# Altium schematic symbol library wr_switch.SCHLIB: 235 symbols (part 3 of 4)
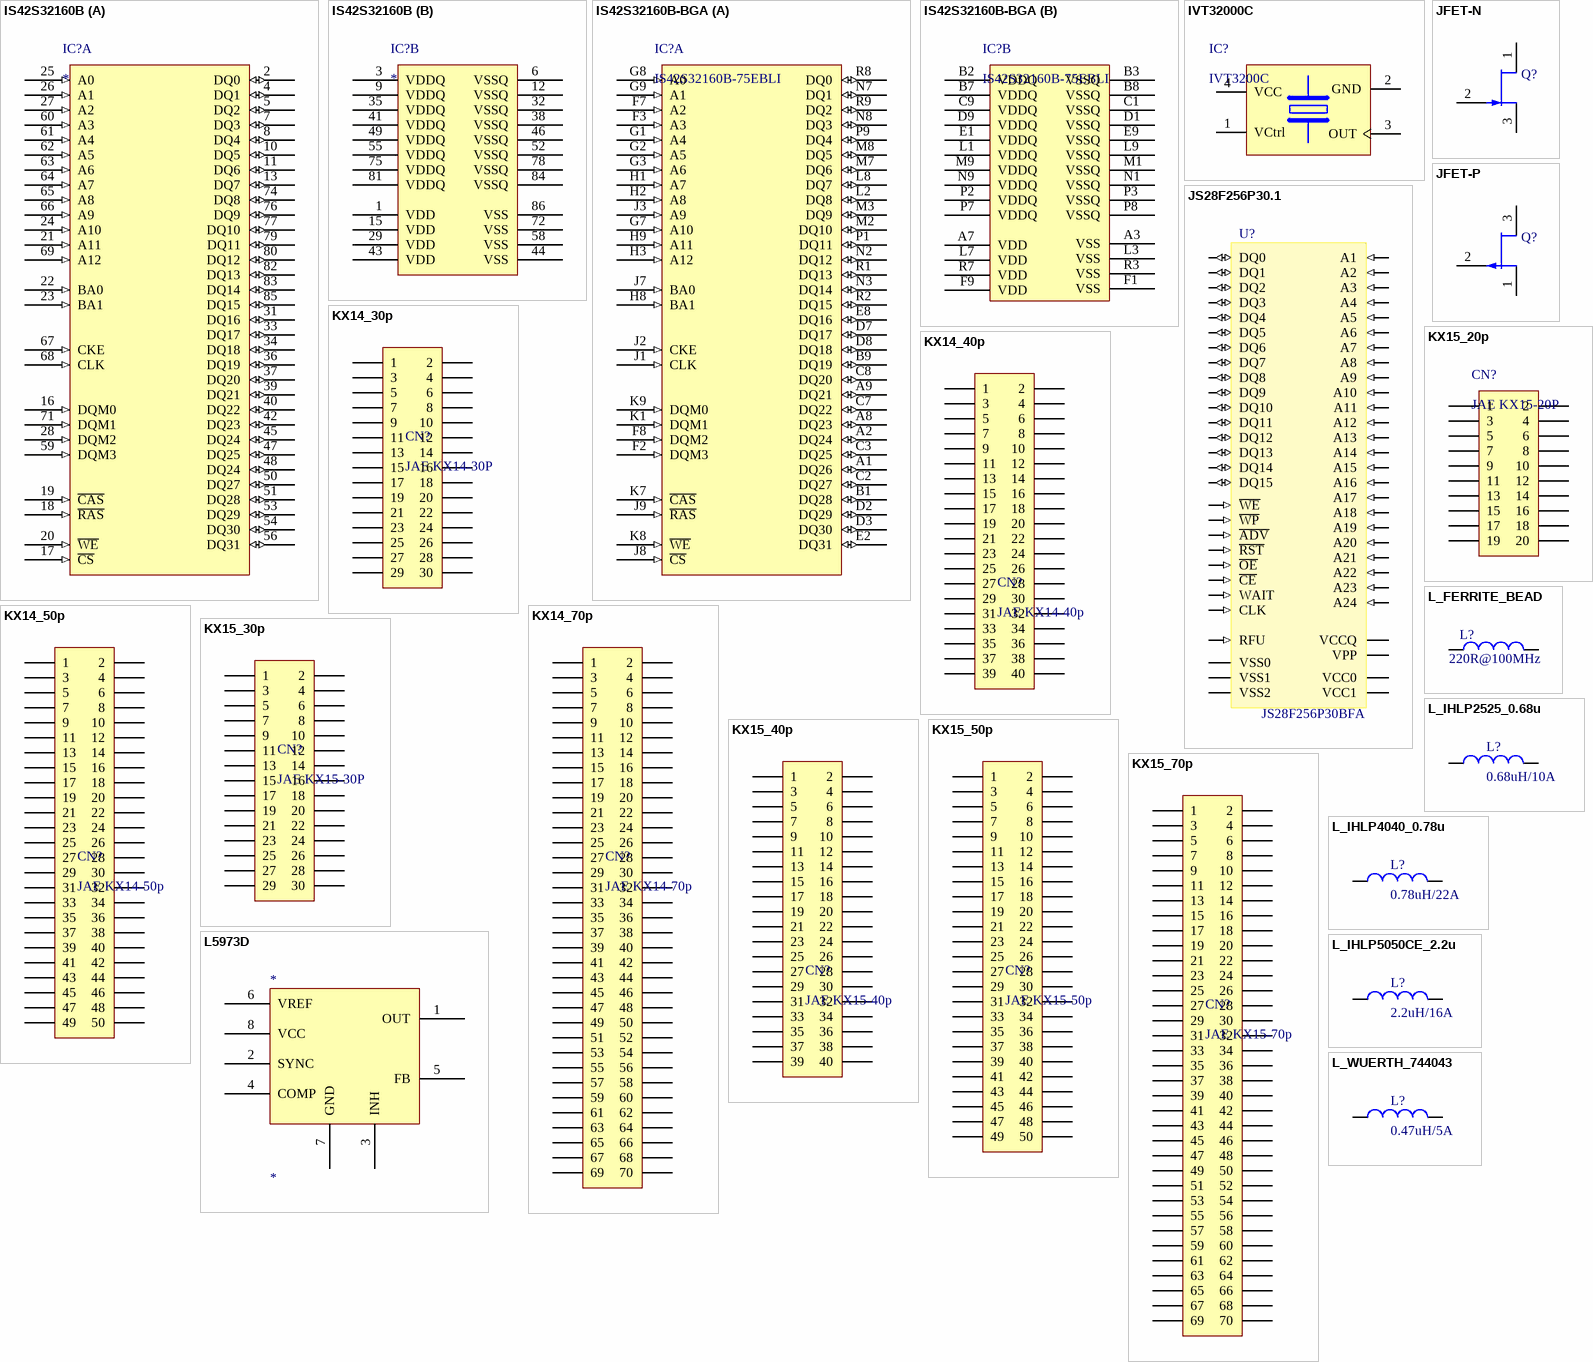
[diagram p28: symbols IS42S32160B to L_WUERTH_744043]

## IS42S32160B-BGA
designator IC?, comment IS42S32160B-75EBLI
SDRAM 512MBit (16Mx32) 133MHz BGA-90
footprint BGA90C80P9X15_1300X1100X120 (BGA 0.8mm, Pitch, Square 90 Pin, 9 Columns x 15 Rows, Body 13mm X 11mm X 1.2mm H)
part A pins: A1 DQ26 (io), A2 DQ24 (io), A8 DQ23 (io), A9 DQ21 (io), B1 DQ28 (io), B9 DQ19 (io), C2 DQ27 (io), C3 DQ25 (io), C7 DQ22 (io), C8 DQ20 (io), D2 DQ29 (io), D3 DQ30 (io), D7 DQ17 (io), D8 DQ18 (io), E2 DQ31 (io), E8 DQ16 (io), F2 DQM3 (in), F3 A3 (in), F7 A2 (in), F8 DQM2 (in), G1 A4 (in), G2 A5 (in), G3 A6 (in), G7 A10 (in), G8 A0 (in), G9 A1 (in), H1 A7 (in), H2 A8 (in), H3 A12 (in), H8 BA1 (in), H9 A11 (in), J1 CLK (in), J2 CKE (in), J3 A9 (in), J7 BA0 (in), J8 ~{CS} (in), J9 ~{RAS} (in), K1 DQM1 (in), K7 ~{CAS} (in), K8 ~{WE} (in), K9 DQM0 (in), L2 DQ8 (io), L8 DQ7 (io), M2 DQ10 (io), M3 DQ9 (io), M7 DQ6 (io), M8 DQ5 (io), N2 DQ12 (io), N3 DQ14 (io), N7 DQ1 (io), N8 DQ3 (io), P1 DQ11 (io), P9 DQ4 (io), R1 DQ13 (io), R2 DQ15 (io), R8 DQ0 (io), R9 DQ2 (io)
part B pins: A3 VSS (power), A7 VDD (power), B2 VDDQ (power), B3 VSSQ (power), B7 VDDQ (power), B8 VSSQ (power), C1 VSSQ (power), C9 VDDQ (power), D1 VSSQ (power), D9 VDDQ (power), E1 VDDQ (power), E9 VSSQ (power), F1 VSS (power), F9 VDD (power), L1 VDDQ (power), L3 VSS (power), L7 VDD (power), L9 VSSQ (power), M1 VSSQ (power), M9 VDDQ (power), N1 VSSQ (power), N9 VDDQ (power), P2 VDDQ (power), P3 VSSQ (power), P7 VDDQ (power), P8 VSSQ (power), R3 VSS (power), R7 VDD (power)

## IVT32000C
designator IC?, comment IVT3200C
footprint OSC_RAKON_IVT3200C (Oscillator IVT3200C Serie, Corner Concave; 4 pin, 2.50mm L X 3.2mm W X 1.1mm H)
pins: 1 VCtrl, 2 GND (power), 3 OUT, 4 VCC (power)

## JFET-N
designator Q?
N-Channel JFET; Published: 8-Jun-2000; LatestRevisionDate: 17-Jul-2002; LatestRevisionNote: Re-released for DXP Platform.; PackageReference: TO-254-AA; Publisher: Altium Limited; Code_JEDEC: TO-254-AA
footprint TO-254-AA (TO, Thru-Hole, Vertical, Heatsink Mounted; 3 In-Line Leads; Pitch 3.81 mm)
simulation model NJFET
pins: 1 D, 2 G, 3 S

## JFET-P
designator Q?
P-Channel JFET; Published: 8-Jun-2000; LatestRevisionDate: 17-Jul-2002; LatestRevisionNote: Re-released for DXP Platform.; PackageReference: TO-18A; Publisher: Altium Limited
footprint TO-18A (SC-89; 3 Flat Leads; Body 1.6 x 1.6 x 0.7 mm, inc leads (LxWxH typ))
simulation model PJFET
pins: 1 D, 2 G, 3 S

## JS28F256P30.1
designator U?, comment JS28F256P30BFA
NOR Flash Memory, 256Mbit; PKG_TYPE: TSOP50P20X14-56; LEVEL: STD; DEVICE: JS28F256P30; Distributor1 PN: JS28F256P30BFA-ND; Distributor1: Digikey; VALUE: JS28F256P30BFA
footprint TSSOP50P2000-56L (TSSOP, 56-Leads, Body 14x18.4mm, Pitch 0.5mm, IPC High Density)
pins: 1 A16 (in), 2 A15 (in), 3 A14 (in), 4 A13 (in), 5 A12 (in), 6 A11 (in), 7 A10 (in), 8 A9 (in), 9 A23 (in), 10 A22 (in), 11 A21 (in), 12 VSS0, 13 VCC0, 14 ~{WE} (in), 15 ~{WP} (in), 16 A20 (in), 17 A19 (in), 18 A18 (in), 19 A8 (in), 20 A7 (in), 21 A6 (in), 22 A5 (in), 23 A4 (in), 24 A3 (in), 25 A2 (in), 26 A24 (in), 27 RFU (in), 28 VSS1, 29 A1 (in), 30 ~{CE} (in), 31 VSS2, 32 ~{OE} (in), 33 VCC1, 34 DQ0 (io), 35 DQ8 (io), 36 DQ1 (io), 37 DQ9 (io), 38 VCCQ, 39 DQ2 (io), 40 DQ10 (io), 41 DQ3 (io), 42 DQ11 (io), 43 VPP, 44 ~{RST} (in), 45 CLK (in), 46 ~{ADV} (in), 47 DQ4 (io), 48 DQ12 (io), 49 DQ5 (io), 50 DQ13 (io), 51 DQ6 (io), 52 DQ14 (io), 53 DQ7 (io), 54 DQ15 (io), 55 A17 (in), 56 WAIT (in)

## KX14_30p
designator CN?, comment JAE KX14-30P
multipin B2B connector (plug); Supplier: Mouser
footprint JAE_KX15_30P
pins: 1, 2, 3, 4, 5, 6, 7, 8, 9, 10, 11, 12, 13, 14, 15, 16, 17, 18, 19, 20, 21, 22, 23, 24, 25, 26, 27, 28, 29, 30

## KX14_40p
designator CN?, comment JAE KX14-40p
multipin B2B connector (receptacle); RefId: 1519650; Value: KX14-40K5DRE; Supplier: Farnell
footprint JAE_KX14_40p
pins: 1, 2, 3, 4, 5, 6, 7, 8, 9, 10, 11, 12, 13, 14, 15, 16, 17, 18, 19, 20, 21, 22, 23, 24, 25, 26, 27, 28, 29, 30, 31, 32, 33, 34, 35, 36, 37, 38, 39, 40

## KX14_50p
designator CN?, comment JAE KX14-50p
multipin B2B connector (plug); Supplier: Farnell
footprint JAE_KX14_50P
pins: 1, 2, 3, 4, 5, 6, 7, 8, 9, 10, 11, 12, 13, 14, 15, 16, 17, 18, 19, 20, 21, 22, 23, 24, 25, 26, 27, 28, 29, 30, 31, 32, 33, 34, 35, 36, 37, 38, 39, 40, 41, 42, 43, 44, 45, 46, 47, 48, 49, 50

## KX14_70p
designator CN?, comment JAE KX14-70p
multipin B2B connector (receptacle); RefId: 670-1272-ND; Value: KX14-70K14DE; Supplier: Digikey
footprint JAE_KX14_70p
pins: 1, 2, 3, 4, 5, 6, 7, 8, 9, 10, 11, 12, 13, 14, 15, 16, 17, 18, 19, 20, 21, 22, 23, 24, 25, 26, 27, 28, 29, 30, 31, 32, 33, 34, 35, 36, 37, 38, 39, 40, 41, 42, 43, 44, 45, 46, 47, 48, 49, 50, 51, 52, 53, 54, 55, 56, 57, 58, 59, 60, 61, 62, 63, 64, 65, 66, 67, 68, 69, 70

## KX15_20p
designator CN?, comment JAE KX15-20P
multipin B2B connector (plug); Supplier: Mouser
footprint JAE_KX15_20P
pins: 1, 2, 3, 4, 5, 6, 7, 8, 9, 10, 11, 12, 13, 14, 15, 16, 17, 18, 19, 20

## KX15_30p
designator CN?, comment JAE KX15-30P
multipin B2B connector (plug); Supplier: Mouser
footprint JAE_KX14_30P
pins: 1, 2, 3, 4, 5, 6, 7, 8, 9, 10, 11, 12, 13, 14, 15, 16, 17, 18, 19, 20, 21, 22, 23, 24, 25, 26, 27, 28, 29, 30

## KX15_40p
designator CN?, comment JAE KX15-40p
multipin B2B connector (plug); RefId: 1519662; Value: KX15-40K3DE; Supplier: Farnell
footprint JAE_KX15_40P
pins: 1, 2, 3, 4, 5, 6, 7, 8, 9, 10, 11, 12, 13, 14, 15, 16, 17, 18, 19, 20, 21, 22, 23, 24, 25, 26, 27, 28, 29, 30, 31, 32, 33, 34, 35, 36, 37, 38, 39, 40

## KX15_50p
designator CN?, comment JAE KX15-50p
multipin B2B connector (plug); Supplier: Farnell
footprint JAE_KX15_50P
pins: 1, 2, 3, 4, 5, 6, 7, 8, 9, 10, 11, 12, 13, 14, 15, 16, 17, 18, 19, 20, 21, 22, 23, 24, 25, 26, 27, 28, 29, 30, 31, 32, 33, 34, 35, 36, 37, 38, 39, 40, 41, 42, 43, 44, 45, 46, 47, 48, 49, 50

## KX15_70p
designator CN?, comment JAE KX15-70p
multipin B2B connector (plug); RefId: 670-1338-ND; Value: KX15-70K4DE; Supplier: Digikey
footprint JAE_KX15_70p
pins: 1, 2, 3, 4, 5, 6, 7, 8, 9, 10, 11, 12, 13, 14, 15, 16, 17, 18, 19, 20, 21, 22, 23, 24, 25, 26, 27, 28, 29, 30, 31, 32, 33, 34, 35, 36, 37, 38, 39, 40, 41, 42, 43, 44, 45, 46, 47, 48, 49, 50, 51, 52, 53, 54, 55, 56, 57, 58, 59, 60, 61, 62, 63, 64, 65, 66, 67, 68, 69, 70

## L5973D
designator *
pins: 1 OUT, 2 SYNC, 3 INH, 4 COMP, 5 FB, 6 VREF, 7 GND, 8 VCC

## L_FERRITE_BEAD
designator L?, comment Impedance: 220R@100MHz  (hidden comment: 220R@100MHz Ferrite Bead)
ferrite bead; Manufacturer1: Murata; Manufacturer1 PN: BLM18KG221SN1D; Current Rating: 2.2A; DCR: 50mOhm; Case: 0603; Distributor1: Digikey; Distributor1 PN: 490-5255-1-ND
footprint 0805
footprint 1206
footprint 0603
pins: 1, 2
2 alternate drawings of the same symbol

## L_IHLP2525_0.68u
designator L?, comment 0.68uH/10A
Vishay 16A 2.2u inductor; Value: ihlp5050ce01-2r2; RefId: 4829049; Supplier: Farnell
footprint IHLP5050
footprint IHLP2525
pins: 1, 2

## L_IHLP4040_0.78u
designator L?, comment 0.78uH/22A
Vishay 27A 0.78u inductor; Manufacturer1 PN: IHLP4040DZERR78M11; Distributor1: Digikey; Distributor1 PN: IHLP4040DZERR78M11-ND; Manufacturer1: Vishay
footprint IHLP4040 (Chip Inductor; Body 10.92mm x 10.3 mm (LxW typ))
pins: 1, 2

## L_IHLP5050CE_2.2u
designator L?, comment 2.2uH/16A
Vishay 16A 2.2u inductor; Value: ihlp5050ce01-2r2; RefId: 1470177; Supplier: Farnell
footprint IHLP5050
pins: 1, 2

## L_WUERTH_744043
designator L?, comment 0.47uH/5A
Wuerth small footprint SMD power inductor; Value: 74404300047; Supplier: Mouser; RefId: 74404300047
footprint IHLP5050
footprint IND_WURTH_744042_MH
pins: 1, 2

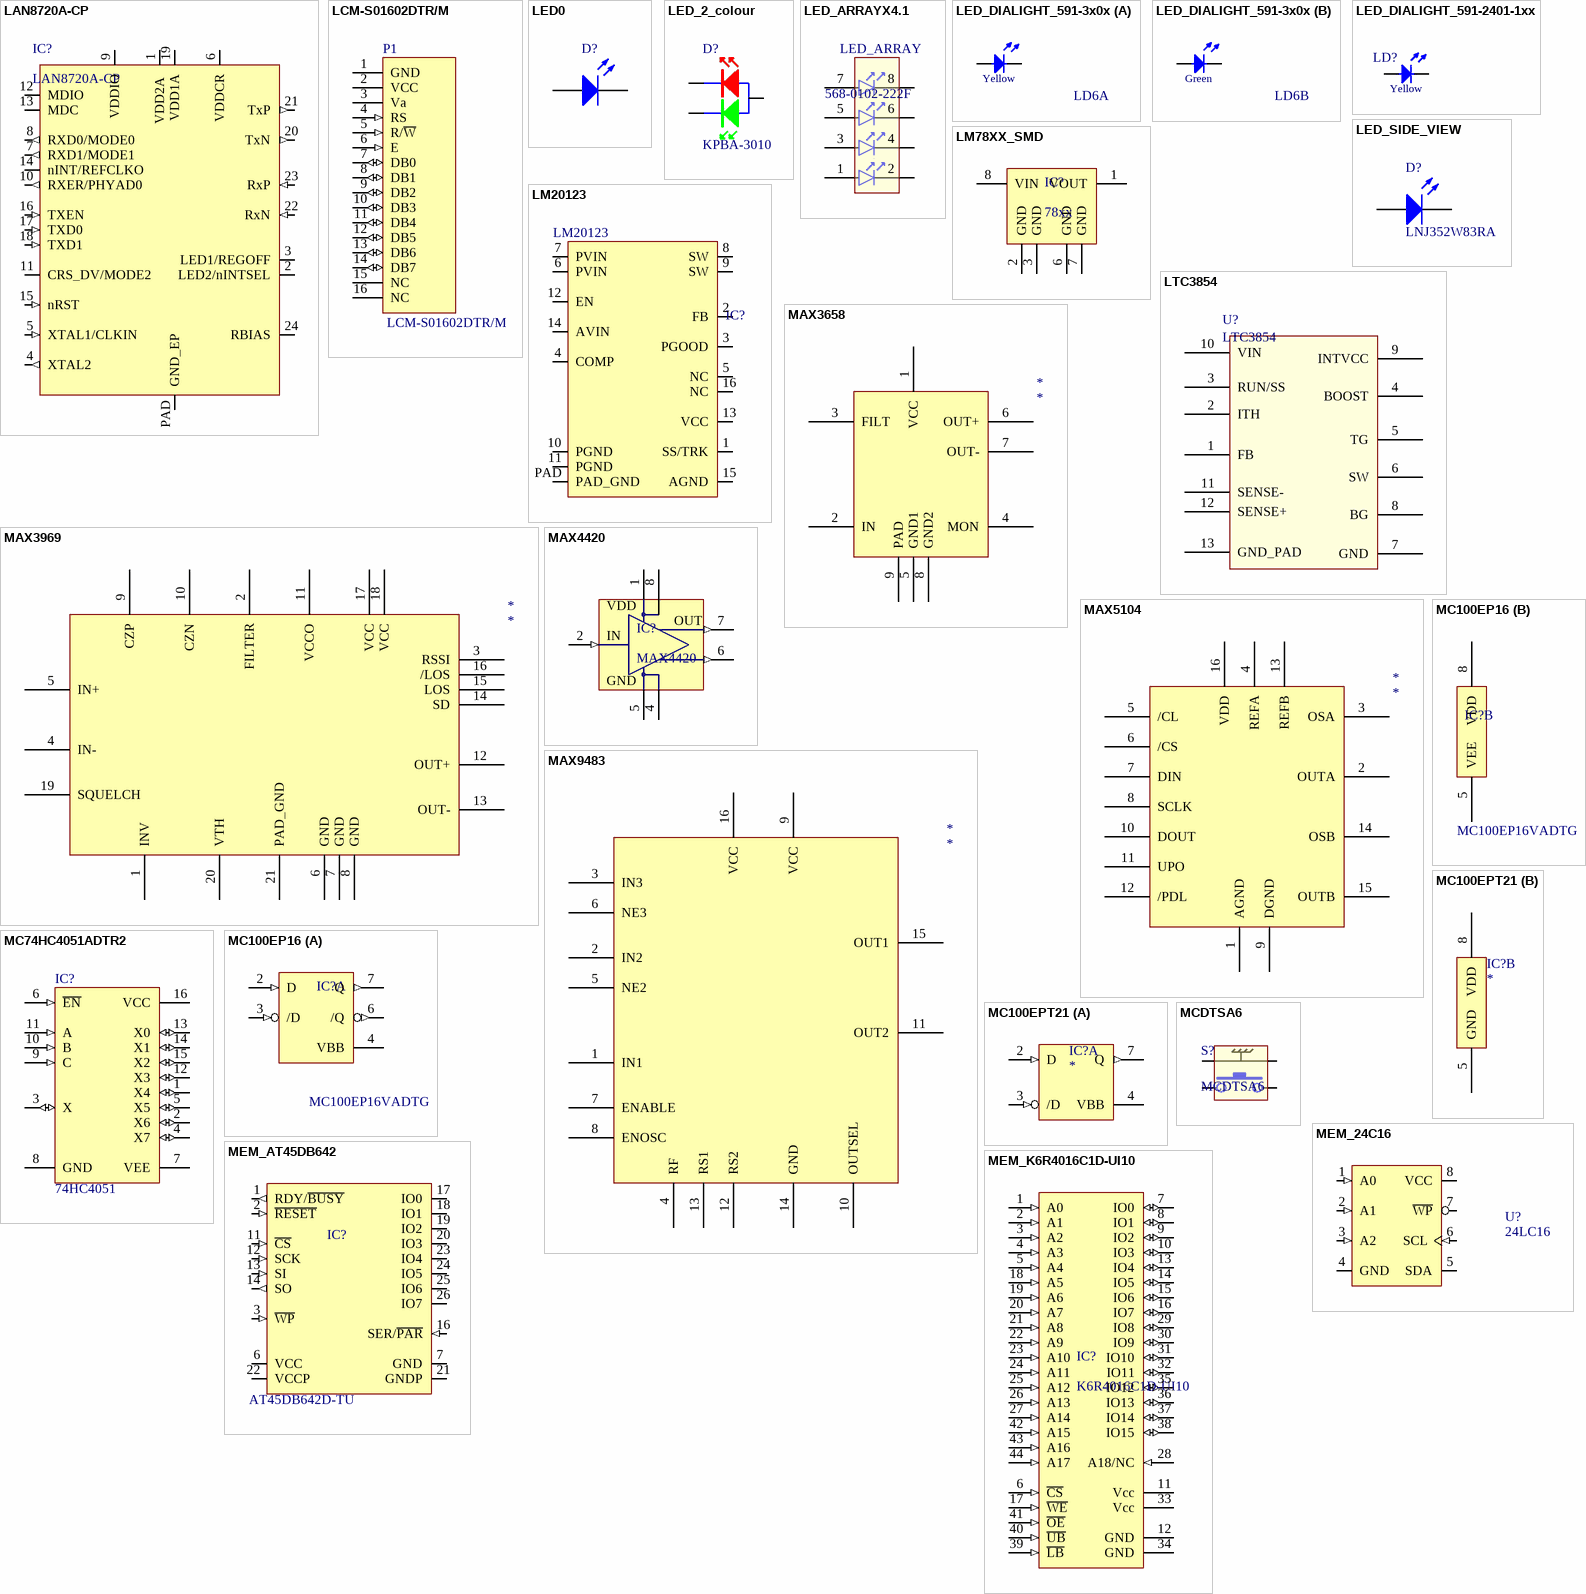
[diagram p18: symbols LAN8720A-CP to MEM_K6R4016C1D-UI10]

## LAN8720A-CP
designator IC?
RMII ethernet transceiver with auto MIDIX; Manufacturer: SMSC; Value: LAN8720A-CP; Distributor1: Digikey; Distributor1 PN: 638-1080-ND
footprint QFN50P400X400-24W4M (QFN, 24-Leads, Body 4x4mm, Pitch 0.5mm, IPC Low Density)
pins: 1 VDD2A  (power), 2 LED2/nINTSEL (io), 3 LED1/REGOFF (io), 4 XTAL2 (out), 5 XTAL1/CLKIN (in), 6 VDDCR (power), 7 RXD1/MODE1 (out), 8 RXD0/MODE0 (out), 9 VDDIO (power), 10 RXER/PHYAD0 (out), 11 CRS_DV/MODE2 (io), 12 MDIO (io), 13 MDC (io), 14 nINT/REFCLKO (io), 15 nRST (in), 16 TXEN (in), 17 TXD0 (in), 18 TXD1 (in), 19 VDD1A (power), 20 TxN (out), 21 TxP (out), 22 RxN (in), 23 RxP (in), 24 RBIAS, PAD GND_EP (power)

## LCM-S01602DTR/M
designator P1
16x2 Character LCD Module; Manufacturer1: Lumex; Distirbutor1 PN: 67-1781-ND; Manufacturer1 PN: LCM-S01602DTR/M; Distributor1: Digikey
footprint LCM-S010602DTR (16x2 LCD, 2.54 Pitch)
pins: 1 GND (power), 2 VCC (power), 3 Va (power), 4 RS (in), 5 R/~{W} (in), 6 E (in), 7 DB0 (io), 8 DB1 (io), 9 DB2 (io), 10 DB3 (io), 11 DB4 (io), 12 DB5 (io), 13 DB6 (io), 14 DB7 (io), 15 NC, 16 NC

## LED0
designator D?
Typical INFRARED GaAs LED; Published: 8-Jun-2000; LatestRevisionDate: 08-Jul-2005; LatestRevisionNote: Mech Layer 1 removed.; PackageReference: LED-0; Publisher: Altium Limited
footprint LED-0 (Typical INFRARED GaAs LED; 2 Leads)
simulation model LED0 (Diode)
footprint CD1608-0603 (Chip Diode; Body 1.6 x 0.8 mm (LxW typ))
pins: 1 A, 2 K

## LED_2_colour
designator D?, comment KPBA-3010
Dual color LED; RefId: Far/8530165; Value: KPBA-3010ESGC-F01
footprint DUOLED_LNJ123; pin to pad A>3 KG>1 KR>2
footprint LED5mm_dual_color (dual LED 5mm)
pins: A, KG, KR

## LED_ARRAYX4.1
designator DS?, comment 568-0102-222F  PKG_TYPE: LED_ARRAY
4x Green Led Array; Manufacturer: Dialight; DEVICE: LED_ARRAYX4; LEVEL: STD; VALUE: 568-0102-222F; DIGIKEY: 350-1768-ND
footprint LED_ARRAY
footprint 3 mm LED Quad-Level
footprint 3 mm LED Quad-Level
pins: 1 ANODE1, 2 CATHODE1, 3 ANODE2, 4 CATHODE2, 5 ANODE3, 6 CATHODE3, 7 ANODE4, 8 CATHODE4

## LED_DIALIGHT_591-3x0x
designator LD6, comment Green/Yellow  (value not drawn)
Bi-Color LED SMD; Manufacturer1: DIALIGHT; Manufacturer1 PN: 591-3101-013F; Color: Green/Yellow; Footprint: LED_DIALIGHT_571-0132F; ComponentHeight: 5mm; Distributor1: Digikey; Distributor1 PN: 350-1790-1-ND
footprint LED_DIALIGHT_591-3x0x-0xx (Bi-Color LED SMD Right Angle, Body 4.3mmx6.1mm)
part A pins: 1 C, 2 A
part B pins: 3 A, 4 C
part A text: Yellow
part B text: Green

## LED_DIALIGHT_591-2401-1xx
designator LD?, comment Yellow  (value not drawn)
LED SMD Right Angle, Square Lens; Manufacturer1: DIALIGHT; Manufacturer1 PN: 591-2401-113F; Color: Yellow; Footprint: LED_DIALIGHT_591-2401-1xx; ComponentHeight: 5.0mm; Author: CERN DEM JLC; Distributor1: Digikey; Distributor1 PN: 350-1583-1-ND
footprint LED_DIALIGHT_591-2x01-1xx (LED SMD Right Angle, Body 4.3mmx6.1mm)
pins: 1 C, 2 A

## LED_SIDE_VIEW
designator D?, comment LNJ352W83RA
LED YELLOW/GREEN SIDE VIEW SMD; Published: 8-Jun-2000; LatestRevisionDate: 08-Jul-2005; LatestRevisionNote: Mech Layer 1 removed.; PackageReference: LED-0; Publisher: Altium Limited; Value: LNJ352W83RA; Distributor1 PN: P14180DKR-ND; Distributor1: Digikey
footprint LED-0 (Typical INFRARED GaAs LED; 2 Leads)
simulation model LED0 (Diode)
pins: 1 A, 2 K

## LM78XX_SMD
designator IC?, comment 78xx
footprint SOIC127P600-8AL (SOIC, 8-Leads, Body 4.9x3.9mm, Pitch 1.27mm, IPC High Density)
pins: 1 VOUT (power), 2 GND (power), 3 GND (power), 6 GND (power), 7 GND (power), 8 VIN (power)

## LM20123
designator IC?
National Semiconductor 3A integrated synchronous buck converter; RefId: 1506824; Supplier: Farnell; Value: LM20123
footprint eTSSOP_16_MX (SOP, 16-Leads, Body 5x4.4mm, Pitch 0.65mm, IPC High Density)
pins: 1 SS/TRK, 2 FB, 3 PGOOD, 4 COMP, 5 NC, 6 PVIN, 7 PVIN, 8 SW, 9 SW, 10 PGND, 11 PGND, 12 EN, 13 VCC, 14 AVIN, 15 AGND, 16 NC, PAD PAD_GND

## LTC3854
designator U?
400KHz, 4.5V to 38V VIN Step-Down DCDC Controller; Manufacturer1: Linear Technology; Manufacturer1 PN: LTC3854EMSE#PBF; Distributor1: Digikey; Distributor1 PN: LTC3854EMSE#PBF-ND
footprint SOP65P490X110-13N-R152X190 (SOP, 12-Leads, Body 4mmx3mm (max), Pitch 0.65mm, (w/thermal tab 1.65 X 2.85 mm), IPC Medium Density)
pins: 1 FB, 2 ITH, 3 RUN/SS, 4 BOOST, 5 TG, 6 SW, 7 GND (power), 8 BG, 9 INTVCC (power), 10 VIN (power), 11 SENSE-, 12 SENSE+, 13 GND_PAD (power)

## MAX3658
designator *
pins: 1 VCC, 2 IN, 3 FILT, 4 MON, 5 GND1, 6 OUT+, 7 OUT-, 8 GND2, 9 PAD

## MAX3969
designator *
pins: 1 INV, 2 FILTER, 3 RSSI, 4 IN-, 5 IN+, 6 GND, 7 GND, 8 GND, 9 CZP, 10 CZN, 11 VCCO, 12 OUT+, 13 OUT-, 14 SD, 15 LOS, 16 /LOS, 17 VCC, 18 VCC, 19 SQUELCH, 20 VTH, 21 PAD_GND

## MAX4420
designator IC?
MOSFET driver
footprint SOIC127P600-8AL (SOIC, 8-Leads, Body 4.9x3.9mm, Pitch 1.27mm, IPC High Density)
pins: 1 VDD (oe), 2 IN (in), 4 GND (oe), 5 GND (oe), 6 OUT (out), 7 OUT (out), 8 VDD (oe)

## MAX5104
designator *
pins: 1 AGND, 2 OUTA, 3 OSA, 4 REFA, 5 /CL, 6 /CS, 7 DIN, 8 SCLK, 9 DGND, 10 DOUT, 11 UPO, 12 /PDL, 13 REFB, 14 OSB, 15 OUTB, 16 VDD

## MAX9483
designator *
pins: 1 IN1, 2 IN2, 3 IN3, 4 RF, 5 NE2, 6 NE3, 7 ENABLE, 8 ENOSC, 9 VCC, 10 OUTSEL, 11 OUT2, 12 RS2, 13 RS1, 14 GND, 15 OUT1, 16 VCC

## MC74HC4051ADTR2
designator IC?, comment 74HC4051
Analog Multiplexer/Demultiplexer; RefId: 8389071; Value: CD74HC4051PWR; Published: 17-Jul-2002; LatestRevisionDate: 06-Jun-2005; LatestRevisionNote: Stylized 3D Model Added; DatasheetVersion: Mar-2000; PackageVersion: Mar-2000; PackageReference: 948F-01; Publisher: Altium Limited; PackageDescription: Shrink Small Outline; 16 Leads; Body Width 4.4 mm; Pitch 0.65 mm; ComponentLink1Description: Manufacturer Link; ComponentLink1URL: http://www.onsemi.com/site/products/parametrics/0,4446,47,00.html; ComponentLink2Description: Datasheet; ComponentLink2URL: http://www.onsemi.com/pub/Collateral/MC74HC4051A-D.PDF; Supplier: Farnell
footprint 948F-01 (Shrink Small Outline; 16 Leads; Body Width 4.4 mm; Pitch 0.65 mm)
3D model 948F-01 (Shrink Small Outline; 16 Leads; Body Width 4.4 mm; Pitch 0.65 mm)
signal-integrity model MC74HC4051ADTR2
pins: 1 X4 (io), 2 X6 (io), 3 X (io), 4 X7 (io), 5 X5 (io), 6 ~{EN} (in), 7 VEE (power), 8 GND (power), 9 C (in), 10 B (in), 11 A (in), 12 X3 (io), 13 X0 (io), 14 X1 (io), 15 X2 (io), 16 VCC (power)

## MC100EP16
designator IC?  value MC100EP16VADTG  (hidden comment: MC100EP16)
ONSemi differental receiver w/ECL output; RefId: 1607606; Supplier: Farnell
footprint TSOP65P490-8AN (TSOP, 8-Leads, Body 3x3mm, Pitch 0.65mm, IPC Medium Density)
part A pins: 2 D (in), 3 /D (in), 4 VBB, 6 /Q (out), 7 Q (out)
part B pins: 5 VEE, 8 VDD

## MC100EPT21
designator IC?
ONSemi LVDS/LVPECL -> LVTTL/LVCMOS buffer; RefId: MC100EPT21DTGOS-ND; Value: MC100EPT21; Supplier: Digikey
footprint TSOP65P490-8AN (TSOP, 8-Leads, Body 3x3mm, Pitch 0.65mm, IPC Medium Density)
part A pins: 2 D (in), 3 /D (in), 4 VBB, 7 Q (out)
part B pins: 5 GND, 8 VDD

## MCDTSA6
designator S?
Push button SPNO Right Angle Through Hole; Manufacturer1 PN: MCDTSA6-5K; Manufacturer1: Multicomp; Distributor1: Farnell; Distributor1 PN: 9471790
footprint MCDTSA6 (SPNO Right Angle Switch, 6mm x 6mm)
pins: 1, 2, 3 (power), 4 (power)
2 alternate drawings of the same symbol

## MEM_24C16
designator U?, comment 24LC16
Serial 16K EEPROM; RefId: 1296575; Value: 24LC16B-I/SN; Supplier: Farnell
footprint SOIC127P600-8AL (SOIC, 8-Leads, Body 4.9x3.9mm, Pitch 1.27mm, IPC High Density)
pins: 1 A0 (in), 2 A1 (in), 3 A2 (in), 4 GND (power), 5 SDA (io), 6 SCL (in), 7 ~{WP}, 8 VCC (power)
2 alternate drawings of the same symbol

## MEM_AT45DB642
designator IC?  value AT45DB642D-TU  (hidden comment: MEM_AT45DB642)
serial data FLASH; RefId: 1095799; Supplier: Farnell
footprint TSOP28-1
footprint SOIC28
pins: 1 RDY/~{BUSY} (out), 2 ~{RESET} (in), 3 ~{WP} (in), 6 VCC (power), 7 GND (power), 11 ~{CS} (in), 12 SCK (in), 13 SI (in), 14 SO (out), 16 SER/~{PAR} (in), 17 IO0 (io), 18 IO1 (io), 19 IO2 (io), 20 IO3 (io), 21 GNDP (power), 22 VCCP (power), 23 IO4 (io), 24 IO5 (io), 25 IO6 (io), 26 IO7 (io)
2 alternate drawings of the same symbol

## MEM_K6R4016C1D-UI10
designator IC?, comment K6R4016C1D-UI10
Samsung 256k x 16 SRAM 10ns; Supplier: TME; Value: K6R4016C1D-UI10; RefId: K6R4016C1D-UI10
footprint TSOP44
pins: 1 A0 (in), 2 A1 (in), 3 A2 (in), 4 A3 (in), 5 A4 (in), 6 ~{CS} (in), 7 IO0 (io), 8 IO1 (io), 9 IO2 (io), 10 IO3 (io), 11 Vcc (power), 12 GND (power), 13 IO4 (io), 14 IO5 (io), 15 IO6 (io), 16 IO7 (io), 17 ~{WE} (in), 18 A5 (in), 19 A6 (in), 20 A7 (in), 21 A8 (in), 22 A9 (in), 23 A10 (in), 24 A11 (in), 25 A12 (in), 26 A13 (in), 27 A14 (in), 28 A18/NC (in), 29 IO8 (io), 30 IO9 (io), 31 IO10 (io), 32 IO11 (io), 33 Vcc (power), 34 GND (power), 35 IO12 (io), 36 IO13 (io), 37 IO14 (io), 38 IO15 (io), 39 ~{LB} (in), 40 ~{UB} (in), 41 ~{OE} (in), 42 A15 (in), 43 A16 (in), 44 A17 (in)

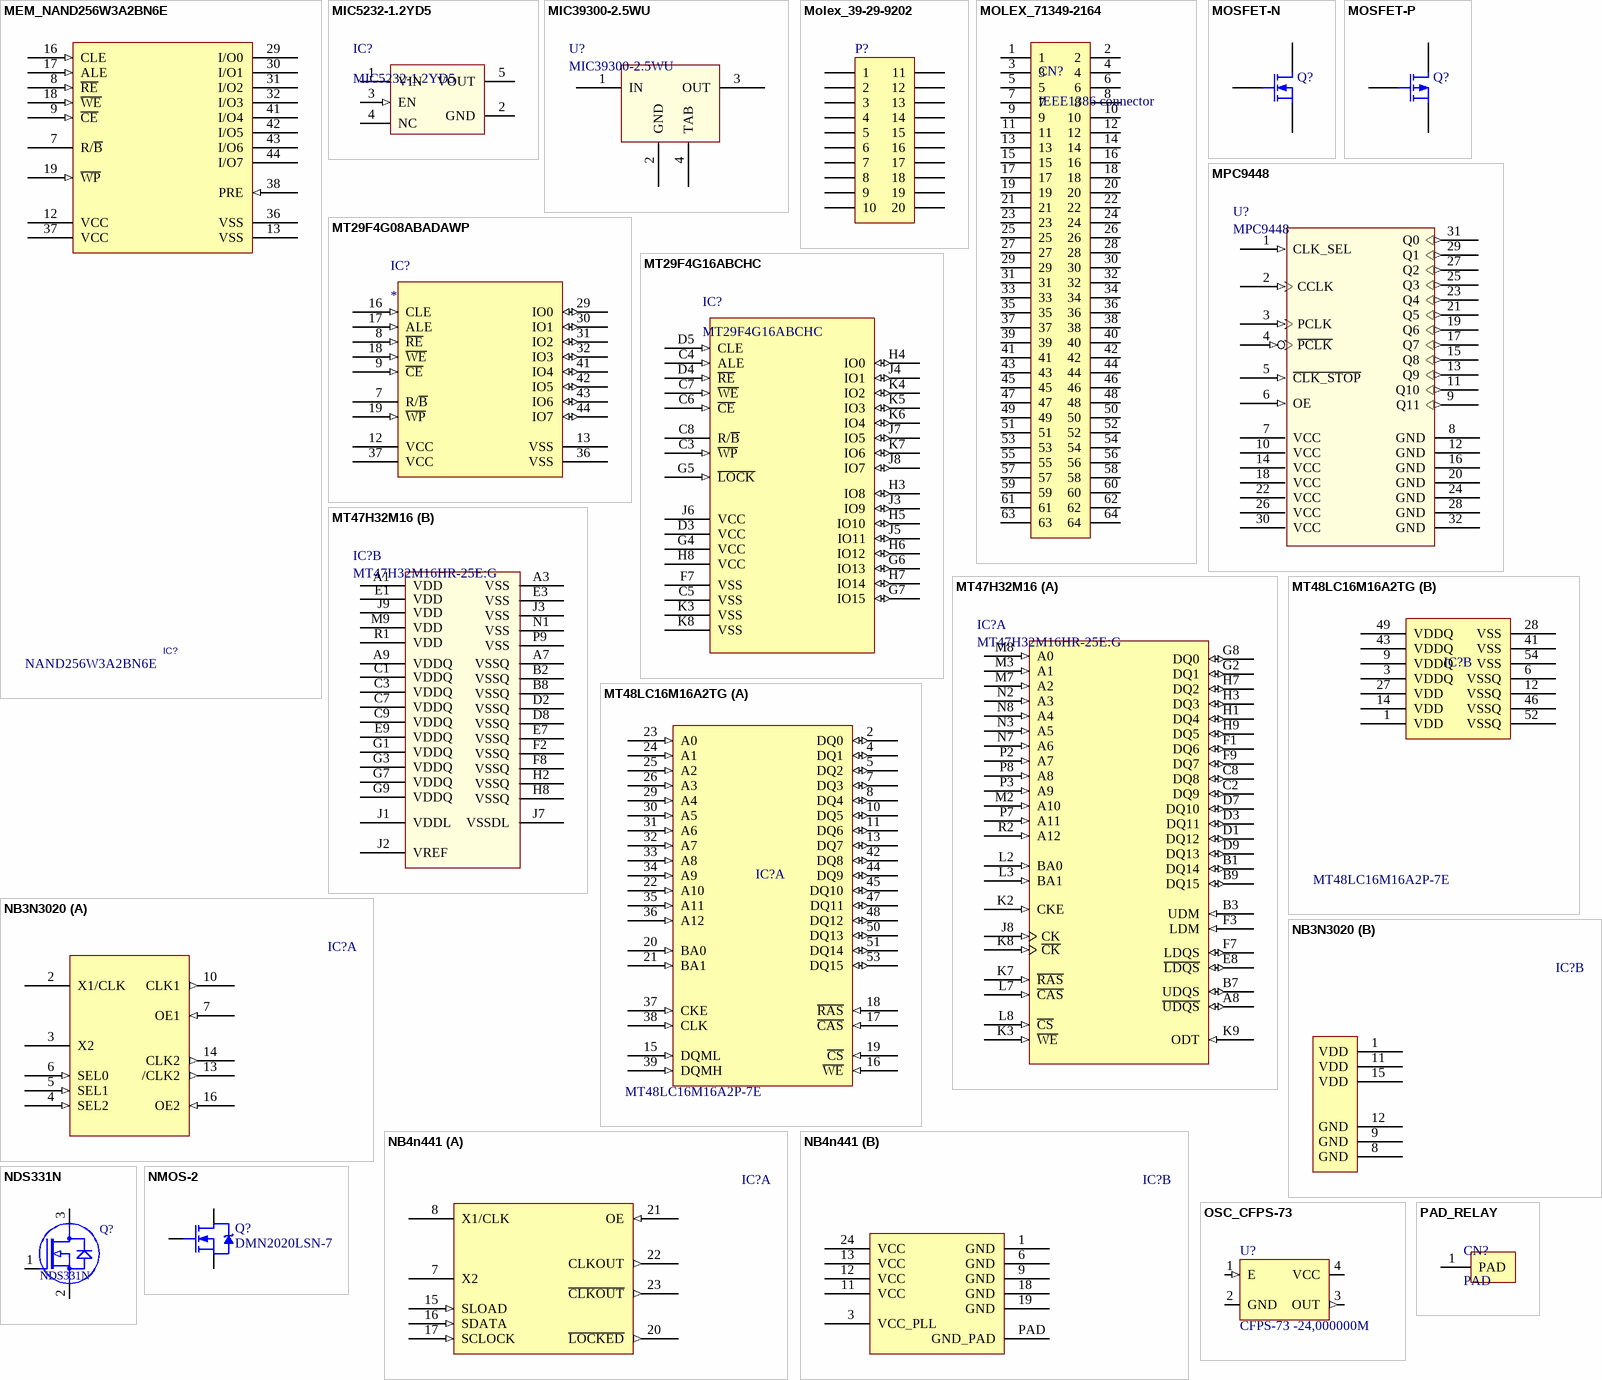
[diagram p19: symbols MEM_NAND256W3A2BN6E to PAD_RELAY]

## MEM_NAND256W3A2BN6E
designator IC?  value NAND256W3A2BN6E  (hidden comment: MEM_NAND256W3A2BN6E)
256 MByte 8-bit NAND flash; Ref. num.: 1224400; Supplier: Farnell
footprint TSOP48_12x20 (Footprint not found)
pins: 7 R/~{B} (oc), 8 ~{RE} (in), 9 ~{CE} (in), 12 VCC (power), 13 VSS (power), 16 CLE (in), 17 ALE (in), 18 ~{WE} (in), 19 ~{WP} (in), 29 I/O0 (hiz), 30 I/O1 (hiz), 31 I/O2 (hiz), 32 I/O3 (hiz), 36 VSS (power), 37 VCC (power), 38 PRE (in), 41 I/O4 (hiz), 42 I/O5 (hiz), 43 I/O6 (hiz), 44 I/O7 (hiz)

## MIC5232-1.2YD5
designator IC?
10mA Ultra-Low Quiescent Current uCap LDO; Manufacturer: Micrel; Value: MIC5232-1.2YD5; Distributor1: Digikey; Distributor1 PN: 576-1829-1-ND
footprint SOT23-5AL (SOT23, 5-Leads, Body 2.9x1.6mm, Pitch 0.95mm, Lead Span 2.8mm, IPC High Density)
pins: 1 VIN (power), 2 GND (power), 3 EN (in), 4 NC, 5 VOUT (power)

## MIC39300-2.5WU
designator U?
3A, Low-Voltage Low-Dropout Regulator; Manufacturer1: Micrel; Distributor1: Digikey; Manufacturer1 PN: MIC39300-2.5WU; Distributor1 PN: 576-1179-1-ND
footprint TO-263-4 (D2-PAK, 4-Leads, Body 8.6x10.2mm, Pitch 2.54mm, Lead Span 14.2mm, IPC Low Density)
pins: 1 IN (power), 2 GND (power), 3 OUT (power), 4 TAB (power)

## Molex_39-29-9202
designator P?, comment ATX 20 Pins Connector  (value not drawn)
Manufacturer1: Molex; LatestRevisionDate: 17-Jul-2002; LatestRevisionNote: Re-released for DXP Platform.; Publisher: Altium Limited; Manufacturer1 PN: 39-29-9202; Distributor1: Digikey; Distributor1 PN: WM7346-ND
signal-integrity model Connector
footprint CONN HEADER 20POS (CONN HEADER 20POS 4.2MM VERT TIN)
pins: 1, 2, 3, 4, 5, 6, 7, 8, 9, 10, 11, 12, 13, 14, 15, 16, 17, 18, 19, 20

## MOLEX_71349-2164
designator CN?, comment IEEE1386 connector
Molex IEEE1386 64-pin 1mm pitch SMD connector
pins: 1, 2, 3, 4, 5, 6, 7, 8, 9, 10, 11, 12, 13, 14, 15, 16, 17, 18, 19, 20, 21, 22, 23, 24, 25, 26, 27, 28, 29, 30, 31, 32, 33, 34, 35, 36, 37, 38, 39, 40, 41, 42, 43, 44, 45, 46, 47, 48, 49, 50, 51, 52, 53, 54, 55, 56, 57, 58, 59, 60, 61, 62, 63, 64

## MOSFET-N
designator Q?
N-Channel MOSFET; PackageDocument: 1995/1996; Published: 8-Jun-2000; LatestRevisionDate: 17-Jul-2002; LatestRevisionNote: Re-released for DXP Platform.; PackageReference: E3; Publisher: Altium Limited
footprint E3 (TO, Flat Index; 3 In-Line, Axial Leads; Body Dia. 4.6mm; Lead Dia. 0.5 mm (max))
simulation model NMOS (MOSFET-N)
pins: 1 D, 2 G, 3 S

## MOSFET-P
designator Q?
P-Channel MOSFET; PackageDocument: 1995/1996; Published: 8-Jun-2000; LatestRevisionDate: 17-Jul-2002; LatestRevisionNote: Re-released for DXP Platform.; PackageReference: E3; Publisher: Altium Limited
footprint E3 (TO, Flat Index; 3 In-Line, Axial Leads; Body Dia. 4.6mm; Lead Dia. 0.5 mm (max))
simulation model PMOS (MOSFET-P)
pins: 1 D, 2 G, 3 S

## MPC9448
designator U?
3.3V/2.5V LVCMOS 1:12 Low Skew Clock Fanout Buffer; Manufacturer1 PN: MPC9448FA; Manufacturer1: IDT; Distributor1: Digikey; Distributor1 PN: 800-2012-ND
footprint QFP80P900X900X160-32AN (QFP,0.80mm Pitch, Square; 32 Pin, 7.00mm L X 7.00mm W X 1.60mm H Body, IPC Medium Density)
pins: 1 CLK_SEL (in), 2 CCLK (in), 3 PCLK (in), 4 ~{PCLK} (in), 5 ~{CLK_STOP} (in), 6 OE (in), 7 VCC (power), 8 GND (power), 9 Q11 (out), 10 VCC (power), 11 Q10 (out), 12 GND (power), 13 Q9 (out), 14 VCC (power), 15 Q8 (out), 16 GND (power), 17 Q7 (out), 18 VCC (power), 19 Q6 (out), 20 GND (power), 21 Q5 (out), 22 VCC (power), 23 Q4 (out), 24 GND (power), 25 Q3 (out), 26 VCC (power), 27 Q2 (out), 28 GND (power), 29 Q1 (out), 30 VCC (power), 31 Q0 (out), 32 GND (power)

## MT29F4G08ABADAWP
designator IC?
NAND Flash 512Mx8, 3.3V Asynch/Page
footprint TSOP48_12x20
pins: 7 R/~{B} (oc), 8 ~{RE} (in), 9 ~{CE} (in), 12 VCC (power), 13 VSS (power), 16 CLE (in), 17 ALE (in), 18 ~{WE} (in), 19 ~{WP} (in), 29 IO0 (io), 30 IO1 (io), 31 IO2 (io), 32 IO3 (io), 36 VSS (power), 37 VCC (power), 41 IO4 (io), 42 IO5 (io), 43 IO6 (io), 44 IO7 (io)

## MT29F4G16ABCHC
designator IC?
NAND Flash 256Mx16, 1.8V Asynch/Page; Value: MT29F4G16ABCHC:C TR; Distributor1: Digikey; Distributor1 PN: 557-1369-1-ND
footprint VFBGA63
pins: C3 ~{WP} (in), C4 ALE (in), C5 VSS (power), C6 ~{CE} (in), C7 ~{WE} (in), C8 R/~{B} (oc), D3 VCC (power), D4 ~{RE} (in), D5 CLE (in), F7 VSS (power), G4 VCC (power), G5 ~{LOCK} (in), G6 IO13 (io), G7 IO15 (io), H3 IO8 (io), H4 IO0 (io), H5 IO10 (io), H6 IO12 (io), H7 IO14 (io), H8 VCC (power), J3 IO9 (io), J4 IO1 (io), J5 IO11 (io), J6 VCC (power), J7 IO5 (io), J8 IO7 (io), K3 VSS (power), K4 IO2 (io), K5 IO3 (io), K6 IO4 (io), K7 IO6 (io), K8 VSS (power)

## MT47H32M16
designator IC?, comment MT47H32M16HR-25E:G
DDR2 SDRAM 8Mx16x4 Banks; Value: MT47H32M16HR-25E:G; Distributor1 PN: MT47H32M16HR-25E:G-ND; Distributor1: Digikey
footprint BGA90C80P9X15_1250X800X120 (BGA 0.8mm, Pitch, Square 90 Pin, 9 Columns x 15 Rows, Body 12.5mm X 8mm X 1.2mm H)
part A pins: A8 ~{UDQS} (io), B1 DQ14 (io), B3 UDM (in), B7 UDQS (io), B9 DQ15 (io), C2 DQ9 (io), C8 DQ8 (io), D1 DQ12 (io), D3 DQ11 (io), D7 DQ10 (io), D9 DQ13 (io), E8 ~{LDQS} (io), F1 DQ6 (io), F3 LDM (in), F7 LDQS (io), F9 DQ7 (io), G2 DQ1 (io), G8 DQ0 (io), H1 DQ4 (io), H3 DQ3 (io), H7 DQ2 (io), H9 DQ5 (io), J8 CK (in), K2 CKE (in), K3 ~{WE} (in), K7 ~{RAS} (in), K8 ~{CK} (in), K9 ODT (in), L2 BA0 (in), L3 BA1 (in), L7 ~{CAS} (in), L8 ~{CS} (in), M2 A10 (in), M3 A1 (in), M7 A2 (in), M8 A0 (in), N2 A3 (in), N3 A5 (in), N7 A6 (in), N8 A4 (in), P2 A7 (in), P3 A9 (in), P7 A11 (in), P8 A8 (in), R2 A12 (in)
part B pins: A1 VDD (power), A3 VSS (power), A7 VSSQ (power), A9 VDDQ (power), B2 VSSQ (power), B8 VSSQ (power), C1 VDDQ (power), C3 VDDQ (power), C7 VDDQ (power), C9 VDDQ (power), D2 VSSQ (power), D8 VSSQ (power), E1 VDD (power), E3 VSS (power), E7 VSSQ (power), E9 VDDQ (power), F2 VSSQ (power), F8 VSSQ (power), G1 VDDQ (power), G3 VDDQ (power), G7 VDDQ (power), G9 VDDQ (power), H2 VSSQ (power), H8 VSSQ (power), J1 VDDL (power), J2 VREF (power), J3 VSS (power), J7 VSSDL (power), J9 VDD (power), M9 VDD (power), N1 VSS (power), P9 VSS (power), R1 VDD (power)

## MT48LC16M16A2TG
designator IC?  value MT48LC16M16A2P-7E  (hidden comment: MT48LC16M16A2TG)
Micron 256Mbit PC133 SDRAM w/16-bit data bus; RefId: 1216281; Supplier: Farnell
footprint TSOP54
part A pins: 2 DQ0 (io), 4 DQ1 (io), 5 DQ2 (io), 7 DQ3 (io), 8 DQ4 (io), 10 DQ5 (io), 11 DQ6 (io), 13 DQ7 (io), 15 DQML (in), 16 ~{WE} (in), 17 ~{CAS} (in), 18 ~{RAS} (in), 19 ~{CS} (in), 20 BA0 (in), 21 BA1 (in), 22 A10 (in), 23 A0 (in), 24 A1 (in), 25 A2 (in), 26 A3 (in), 29 A4 (in), 30 A5 (in), 31 A6 (in), 32 A7 (in), 33 A8 (in), 34 A9 (in), 35 A11 (in), 36 A12 (in), 37 CKE (in), 38 CLK (in), 39 DQMH (in), 42 DQ8 (io), 44 DQ9 (io), 45 DQ10 (io), 47 DQ11 (io), 48 DQ12 (io), 50 DQ13 (io), 51 DQ14 (io), 53 DQ15 (io)
part B pins: 1 VDD (power), 3 VDDQ (power), 6 VSSQ (power), 9 VDDQ (power), 12 VSSQ (power), 14 VDD (power), 27 VDD (power), 28 VSS (power), 41 VSS (power), 43 VDDQ (power), 46 VSSQ (power), 49 VDDQ (power), 52 VSSQ (power), 54 VSS (power)

## NB3N3020
designator IC?  (value not drawn)
OnSemi single-chip clock mutliplier; Value: NB3N3020DTR2G; RefId: NB3N3020DTR2G-ND; Supplier: Digikey
footprint SOP65P640-16L (SOP, 16-Leads, Body 5x4.4mm, Pitch 0.65mm, IPC High Density)
part A pins: 2 X1/CLK, 3 X2, 4 SEL2 (in), 5 SEL1 (in), 6 SEL0 (in), 7 OE1 (in), 10 CLK1 (out), 13 /CLK2 (out), 14 CLK2 (out), 16 OE2 (in)
part B pins: 1 VDD (power), 8 GND (power), 9 GND (power), 11 VDD (power), 12 GND (power), 15 VDD (power)

## NB4n441
designator IC?  (value not drawn)
OnSemi single-chip clock synthesizer; Value: NB3N441MNG; Supplier: Avnet; RefId: NB3N441MNG
footprint QFN24 (Footprint not found)
part A pins: 7 X2, 8 X1/CLK, 15 SLOAD (in), 16 SDATA (in), 17 SCLOCK (in), 20 ~{LOCKED} (out), 21 OE (in), 22 CLKOUT (out), 23 ~{CLKOUT} (out)
part B pins: 1 GND (power), 3 VCC_PLL (power), 6 GND (power), 9 GND (power), 11 VCC (power), 12 VCC (power), 13 VCC (power), 18 GND (power), 19 GND (power), 24 VCC (power), PAD GND_PAD (power)

## NDS331N
designator Q?
N-Channel Logic Level Enhancement Mode Field Effect Transistor; DEVICE: NDS331N; VALUE: NDS331N; Distributor1 PN: NDS331NCT-ND; Distributor1: Digikey
footprint SOT95P230X110-3N (SOT23, 3 pin, Pitch 0.95mm - 1.3mm W X 2.9mm L X 1.1mm H, IPC Medium Density)
pins: 1 GATE, 2 SOURCE, 3 DRAIN

## NMOS-2
designator Q?, comment DMN2020LSN-7
N-Channel Power MOSFET; Manufacturer: Diodes Inc.; Published: 8-Jun-2000; LatestRevisionDate: 17-Jul-2002; LatestRevisionNote: Re-released for DXP Platform.; DatasheetVersion: PD-9.814; Publisher: Altium Limited; ComponentLink1Description: Manufacturer Link; ComponentLink1URL: http://www.irf.com/; Value: DMN2020LSN-7; Distributor1: Digikey; Distributor1 PN: DMN2020LSN-7DICT-ND
simulation model IRF1010 (Spice Subcircuit)
footprint SC-59-3
pins: 1 G, 2 D, 3 S

## OSC_CFPS-73
designator U?, comment CFPS-73 -24,000000M
SMD oscillator 3.3V (Elfa)
footprint SPXO
pins: 1 E (in), 2 GND (power), 3 OUT (out), 4 VCC (power)
2 alternate drawings of the same symbol

## PAD_RELAY
designator CN?, comment PAD
footprint PAD_RELAY
pins: 1 PAD

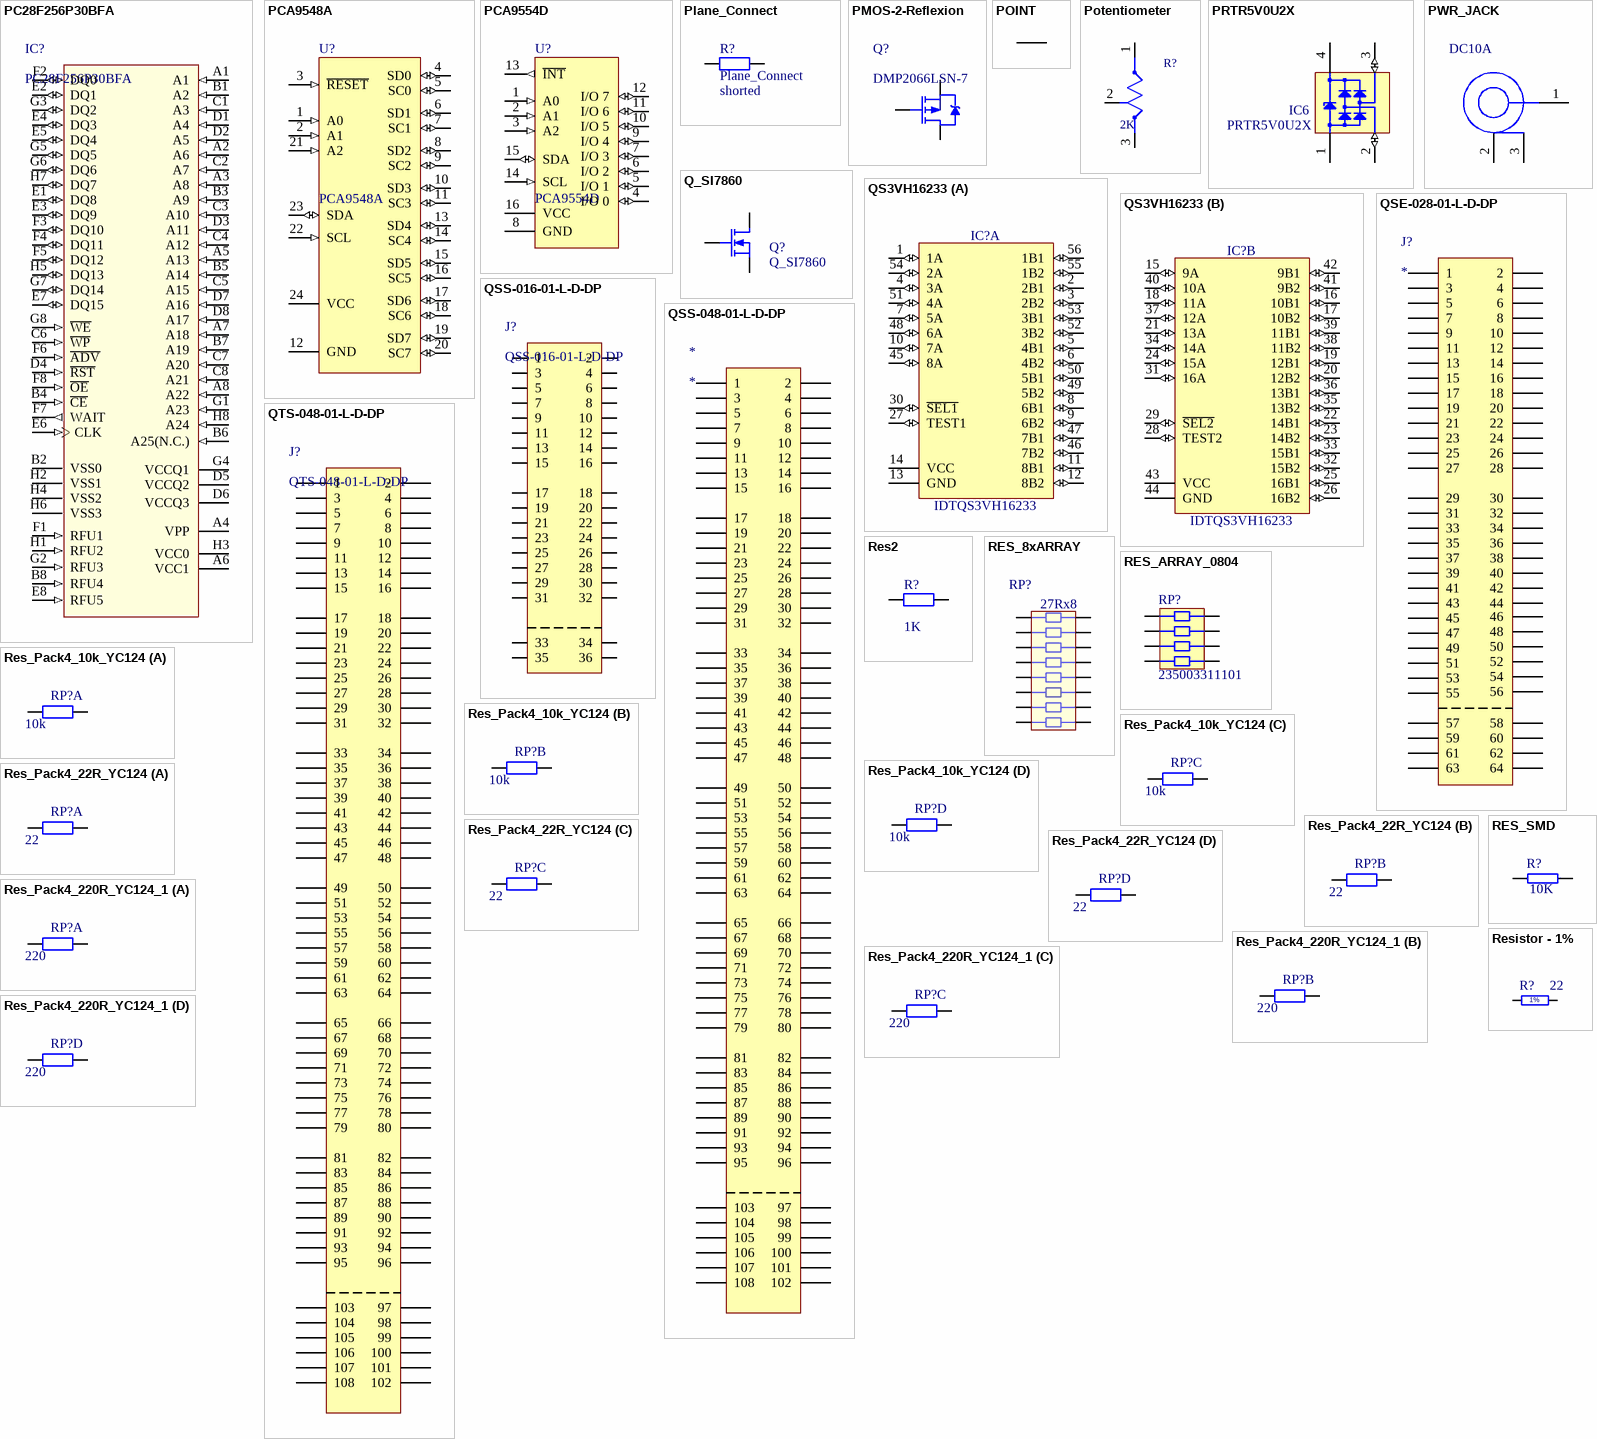
[diagram p20: symbols PC28F256P30BFA to Resistor - 1%]

## PC28F256P30BFA
designator IC?
NOR Flash Memory, 256Mbit; Value: PC28F256P30BFA; Distributor1 PN: PC28F256P30BFA-ND; Distributor1: Digikey; Case: TBGA-64
footprint BGA64C100P8X8_1300X1000X120 (BGA, 64-Leads, Body 13,0x10,0mm,  Pitch 1,00mm)
pins: A1 (in), A2 A6 (in), A3 A8 (in), A4 VPP, A5 A13 (in), A6 VCC1 (power), A7 A18 (in), A8 A22 (in), B1 A2 (in), B2 VSS0 (power), B3 A9 (in), B4 ~{CE} (in), B5 A14 (in), B6 A25(N.C.) (in), B7 A19 (in), B8 RFU4 (in), C1 A3 (in), C2 A7 (in), C3 A10 (in), C4 A12 (in), C5 A15 (in), C6 ~{WP} (in), C7 A20 (in), C8 A21 (in), D1 A4 (in), D2 A5 (in), D3 A11 (in), D4 ~{RST} (in), D5 VCCQ2 (power), D6 VCCQ3 (power), D7 A16 (in), D8 A17 (in), E1 DQ8 (io), E2 DQ1 (io), E3 DQ9 (io), E4 DQ3 (io), E5 DQ4 (io), E6 CLK (in), E7 DQ15 (io), E8 RFU5 (in), F1 RFU1 (in), F2 DQ0 (io), F3 DQ10 (io), F4 DQ11 (io), F5 DQ12 (io), F6 ~{ADV} (in), F7 WAIT (out), F8 ~{OE} (in), G1 A23 (in), G2 RFU3 (in), G3 DQ2 (io), G4 VCCQ1 (power), G5 DQ5 (io), G6 DQ6 (io), G7 DQ14 (io), G8 ~{WE} (in), H1 RFU2 (in), H2 VSS1 (power), H3 VCC0 (power), H4 VSS2 (power), H5 DQ13 (io), H6 VSS3 (power), H7 DQ7 (io), H8 A24 (in)

## PCA9548A
designator U?
8-channel 2C-bus switch with reset; Manufacturer1 PN: PCA9548APW,112; Manufacturer1: NXP Semiconductors; Distributor1: Digikey; Distributor1 PN: 568-3384-5-ND
footprint SOP65P640X120-24N (SOP, 0.65mm Pitch; 24 Pin, 4.40mm W X 7.80mm L X 1.20mm H Body, IPC Medium Density)
pins: 1 A0 (in), 2 A1 (in), 3 ~{RESET} (in), 4 SD0 (io), 5 SC0 (io), 6 SD1 (io), 7 SC1 (io), 8 SD2 (io), 9 SC2 (io), 10 SD3 (io), 11 SC3 (io), 12 GND (power), 13 SD4 (io), 14 SC4 (io), 15 SD5 (io), 16 SC5 (io), 17 SD6 (io), 18 SC6 (io), 19 SD7 (io), 20 SC7 (io), 21 A2 (in), 22 SCL (in), 23 SDA (io), 24 VCC (power)

## PCA9554D
designator U?
8-bit I2C-bus SMBus I/O port with interrupt; Manufacturer1 PN: PCA9554D,112; Manufacturer1: NXP Semiconductors; Distributor1: Digikey; Distributor1 PN: 568-1053-5-ND
footprint SOIC127P1030X265-16N (SOIC 16, Pitch 1.27mm - Body 7.5x10.3mm, IPC Medium Density)
footprint SOP65P640X120-16N (SOP, 0.65mm pitch; 16 pin, 4.40mm W X 5.00mm L X 1.20mm H body IPC Medium Density)
pins: 1 A0 (in), 2 A1 (in), 3 A2 (in), 4 I/O 0 (io), 5 I/O 1 (io), 6 I/O 2 (io), 7 I/O 3 (io), 8 GND (power), 9 I/O 4 (io), 10 I/O 5 (io), 11 I/O 6 (io), 12 I/O 7 (io), 13 ~{INT} (out), 14 SCL (in), 15 SDA (io), 16 VCC (power)

## Plane_Connect
designator R?  value shorted
Resistor; Published: 8-Jun-2000; LatestRevisionDate: 17-Jul-2002; LatestRevisionNote: Re-released for DXP Platform.; PackageReference: AXIAL-0.4; Publisher: Altium Limited
footprint PLANE_CONNECT_POINT
simulation model RESISTOR (Resistor)
signal-integrity model Res
pins: 1, 2

## PMOS-2-Reflexion
designator Q?, comment DMP2066LSN-7
P-Channel Enhancement MOSFET; Manufacturer: Diodes Inc.; Distributor1 PN: DMP2066LSNDICT-ND; Distributor1: Digikey; Case: SC-59; Manufacturer PN: DMP2066LSN-7
footprint SC-59-3
pins: 1 G, 2 D, 3 S

## POINT
designator TP?
footprint POINT
pins: 1

## Potentiometer
designator R?, comment 2K
2K, through hole ±20% 0.5W potentiometer; Manufacturer1 PN: 3352W-1-202LF; Manufacturer1 PN: Burns Inc; DEVICE: R_KELVIN; Value: 2K; POWER: 0.5W; TOLERANCE: 20%; Distributor1: Digikey; Distributor1 PN: 3352W-202LF-ND
footprint POT_ 3352W (Potentiometer TH 2.54mm pitch)
pins: 1, 2, 3

## PRTR5V0U2X
designator IC6
Ultra Low Capacitance Double Rail-to-Rail ESD Protection Diode; Part Description: Ultra Low Capacitance (1pF) Double Rail-to-Rail ESD Protection Diode (8kV); Manufacturer: PHILIPS NXP; Voltage: 5.5V; Table: Diodes; Part Number: PRTR5V0U2X; Component Kind: Standard; Component Type: Standard; Device: PRTR5V0U2X; Footprint: SOT190P230X110-4N; PackageDescription: SOT143B, SOT, 1.90mm Pitch; 4 Pin, 1.30mm W X 2.90mm L X 1.10mm H body, IPC Medium Density; Manufacturer Part Number: PRTR5V0U2X; Pin Count: 4; Case: SOT143B; Mounted: Yes; Socket: No; SMD: Yes; ComponentHeight: 1.1mm; HelpURL: \\cern.ch\dfs\Applications\Altium\Datasheets\PRTR5V0U2X.pdf; Author: CERN DEM JLC; CreateDate: 3/22/2011; LatestRevisionDate: 3/22/2011
footprint SOT190P230X110-4N
pins: 1 GND (power), 2 I/O1 (io), 3 I/O2 (io), 4 VCC (power)

## PWR_JACK
designator J?, comment DC10A
Power Jack 5A @ 12V; PKG_TYPE: PWR_JACK; LEVEL: STD; Value: DC10A; Distributor1 PN: 224959; Distributor1: Farnell
footprint dc-10 (DC-10 PCB mounting  pin / ring type with  switch. Rated 12V /  5A. DC10A with  2.1mm dia. pin.  DC10B with 2.5mm  dia. pin)
pins: 1 P1 (power), 2 P2 (power), 3 P3 (power)

## Q_SI7860
designator Q?
18A 8mOhm N-Channel MOSFET; PackageDocument: 1995/1996; RefId: 1653688; Value: SI7860DP; Published: 8-Jun-2000; LatestRevisionDate: 17-Jul-2002; LatestRevisionNote: Re-released for DXP Platform.; PackageReference: E3; Publisher: Altium Limited; Supplier: Farnell
footprint SOIC127P600-8AL (SOIC, 8-Leads, Body 4.9x3.9mm, Pitch 1.27mm, IPC High Density)
pins: 1 S, 2 S, 3 S, 4 G, 5 D, 6 D, 7 D, 8 D

## QS3VH16233
designator IC?, comment IDTQS3VH16233
16-Bit 1-of-2 FET Multiplexer/Demultiplexer; Manufacturer1: IDT; Manufacturer1 PN: IDTQS3VH16233PAG8; Distributor1: Digikey; Distributor1 PN: 800-1868-1-ND
footprint TSSOP50P810-56M (TSSOP, 56-Leads, Body 14x6.1mm, Pitch 0.5mm, IPC Low Density)
part A pins: 1 1A (io), 2 2B1 (io), 3 2B2 (io), 4 3A (io), 5 4B1 (io), 6 4B2 (io), 7 5A (io), 8 6B1 (io), 9 6B2 (io), 10 7A (io), 11 8B1 (io), 12 8B2 (io), 13 GND (power), 14 VCC (power), 27 TEST1 (io), 30 ~{SEL1} (io), 45 8A (io), 46 7B2 (io), 47 7B1 (io), 48 6A (io), 49 5B2 (io), 50 5B1 (io), 51 4A (io), 52 3B2 (io), 53 3B1 (io), 54 2A (io), 55 1B2 (io), 56 1B1 (io)
part B pins: 15 9A (io), 16 10B1 (io), 17 10B2 (io), 18 11A (io), 19 12B1 (io), 20 12B2 (io), 21 13A (io), 22 14B1 (io), 23 14B2 (io), 24 15A (io), 25 16B1 (io), 26 16B2 (io), 28 TEST2 (io), 29 ~{SEL2} (io), 31 16A (io), 32 15B2 (io), 33 15B1 (io), 34 14A (io), 35 13B2 (io), 36 13B1 (io), 37 12A (io), 38 11B2 (io), 39 11B1 (io), 40 10A (io), 41 9B2 (io), 42 9B1 (io), 43 VCC (power), 44 GND (power)

## QSE-028-01-L-D-DP
designator J?
High Speed Ground Plane Header
footprint QSE-028-01-X-D-DP-A (0.80mm pitch, 56 pin, high speed socket strip; differential)
pins: 1, 2, 3, 4, 5, 6, 7, 8, 9, 10, 11, 12, 13, 14, 15, 16, 17, 18, 19, 20, 21, 22, 23, 24, 25, 26, 27, 28, 29, 30, 31, 32, 33, 34, 35, 36, 37, 38, 39, 40, 41, 42, 43, 44, 45, 46, 47, 48, 49, 50, 51, 52, 53, 54, 55, 56, 57, 58, 59, 60, 61, 62, 63, 64

## QSS-016-01-L-D-DP
designator J?
footprint QSS-016-01-X-D-DP-A (0.635mm pitch, 32 pin, high speed socket; differential)
pins: 1, 2, 3, 4, 5, 6, 7, 8, 9, 10, 11, 12, 13, 14, 15, 16, 17, 18, 19, 20, 21, 22, 23, 24, 25, 26, 27, 28, 29, 30, 31, 32, 33, 34, 35, 36

## QSS-048-01-L-D-DP
designator *
High Speed Ground Plane Header
footprint QSS-048-01-X-D-DP-A (0.635mm pitch, high speed socket; differential pair array)
pins: 1, 2, 3, 4, 5, 6, 7, 8, 9, 10, 11, 12, 13, 14, 15, 16, 17, 18, 19, 20, 21, 22, 23, 24, 25, 26, 27, 28, 29, 30, 31, 32, 33, 34, 35, 36, 37, 38, 39, 40, 41, 42, 43, 44, 45, 46, 47, 48, 49, 50, 51, 52, 53, 54, 55, 56, 57, 58, 59, 60, 61, 62, 63, 64, 65, 66, 67, 68, 69, 70, 71, 72, 73, 74, 75, 76, 77, 78, 79, 80, 81, 82, 83, 84, 85, 86, 87, 88, 89, 90, 91, 92, 93, 94, 95, 96, 97, 98, 99, 100, 101, 102, 103, 104, 105, 106, 107, 108

## QTS-048-01-L-D-DP
designator J?
High Speed Ground Plane Header; Manufacturer1: Samtec; Manufacturer1 PN: QTS-048-01-L-D-DP
footprint QTS-048-XX-X-D-DP-A (0.635mm pitch, 110 pin, terminal assembly; 48 differential pairs, high speed, double row, SMT)
pins: 1, 2, 3, 4, 5, 6, 7, 8, 9, 10, 11, 12, 13, 14, 15, 16, 17, 18, 19, 20, 21, 22, 23, 24, 25, 26, 27, 28, 29, 30, 31, 32, 33, 34, 35, 36, 37, 38, 39, 40, 41, 42, 43, 44, 45, 46, 47, 48, 49, 50, 51, 52, 53, 54, 55, 56, 57, 58, 59, 60, 61, 62, 63, 64, 65, 66, 67, 68, 69, 70, 71, 72, 73, 74, 75, 76, 77, 78, 79, 80, 81, 82, 83, 84, 85, 86, 87, 88, 89, 90, 91, 92, 93, 94, 95, 96, 97, 98, 99, 100, 101, 102, 103, 104, 105, 106, 107, 108

## Res2
designator R?  value 1K
Resistor; Published: 8-Jun-2000; LatestRevisionDate: 17-Jul-2002; LatestRevisionNote: Re-released for DXP Platform.; PackageReference: AXIAL-0.4; Publisher: Altium Limited
footprint AXIAL-0.4 (Resistor; 2 Leads)
simulation model RESISTOR (Resistor)
signal-integrity model Res
pins: 1, 2

## RES_8xARRAY
designator RP?, comment value 27Rx8  (hidden comment: 27R x 8)
27R, 62.5mW Chip Resistor 8 Elements Array; Manufacturer1: Rohm; Manufacturer1 PN: MNR18E0APJ270; Tolerance: ±5%; TCR: 200ppm; Case: RESCAXS50P160X380X60-16N; Distributor1 PN: MNR18270CT-ND; Distributor1: DigiKey; Power Rating: 62.5mW
footprint RESCAXS50P160X380X60-16N (Resistor, Chip Array, 0.50mm pitch; 16 pin, 1.60mm W X 3.80mm L X 0.60mm H, IPC Medium Density)
pins: 1, 2, 3, 4, 5, 6, 7, 8, 9, 10, 11, 12, 13, 14, 15, 16

## RES_ARRAY_0804
designator RP?, comment 235003311101
Resistor network 0804 PHYCOMP (Farnell)
footprint YC124
pins: 1, 2, 3, 4, 5, 6, 7, 8
2 alternate drawings of the same symbol

## Res_Pack4_10k_YC124
designator RP?, comment value 10k  (hidden comment: RES_PACK)
4-resistor pack; RefId: AVX  CRB2A4 series; Supplier: Farnell
footprint YC124
part A pins: 1 A, 8 B
part B pins: 2 A, 7 B
part C pins: 3 A, 6 B
part D pins: 4 A, 5 B

## Res_Pack4_22R_YC124
designator RP?, comment value 22  (hidden comment: RES_PACK)
4-resistor pack; RefId: AVX  CRB2A4 series; Supplier: Farnell
footprint YC124
part A pins: 1 A, 8 B
part B pins: 2 A, 7 B
part C pins: 3 A, 6 B
part D pins: 4 A, 5 B

## Res_Pack4_220R_YC124_1
designator RP?, comment value 220  (hidden comment: RES_PACK)
4-resistor pack; RefId: AVX  CRB2A4 series; Supplier: Farnell
footprint YC124
part A pins: 1 A, 8 B
part B pins: 2 A, 7 B
part C pins: 3 A, 6 B
part D pins: 4 A, 5 B

## RES_SMD
designator R?, comment 10K
SMD Resistor; Manufacturer1: Panasonic; Manufacturer1 PN: ERJ-2RKF1002X; TCR: 100ppm; Power Rating: 0.1W; Tolerance: ±1%; Case: 0402; Distributor1: DigiKey; Distributor1 PN: P10.0KLCT-ND; Value: 10K
footprint 0805
footprint 1206
footprint 0603
footprint 0402
footprint CR3225-1210
pins: 1, 2
2 alternate drawings of the same symbol

## Resistor - 1%
designator R?, comment 22
Resistor - 1%; Part Number: R0603_22R_1%_0.1W_100PPM; Part Description: General Purpose Thick Film Chip Resistor; Manufacturer: GENERIC; Manufacturer1 Part Number: NRC06F22R0TRF; Manufacturer1 Datasheet: \\cern.ch\dfs\Applications\Altium\Datasheets\R0603_NIC_NRC.pdf; Power: 0.1W; TC: ±100ppm/°C; Table: Resistors SMD; Component Kind: Standard; Component Type: Standard; Designator: Resistor - 1%; Footprint: RESC1608X55N; Library Reference: Resistor - 1%; Pin Count: 2; Value: 22; Status: Preferred; Tolerance: ±1%; Manufacturer Part Number: R0603_22R_1%_0.1W_100PPM; Case: 0603; Mounted: Yes; Socket: No; SMD: Yes; Manufacturer1 Example: NIC COMPONENT; Manufacturer1 ComponentHeight: 0.55mm; HelpURL: \\cern.ch\dfs\Applications\Altium\Datasheets\R0603_NIC_NRC.pdf; Author: CERN DEM JLC; CreateDate: 2007-12-03; LatestRevisionDate: 2008-03-13
footprint RESC1608X55N
pins: 1, 2
text: 1%

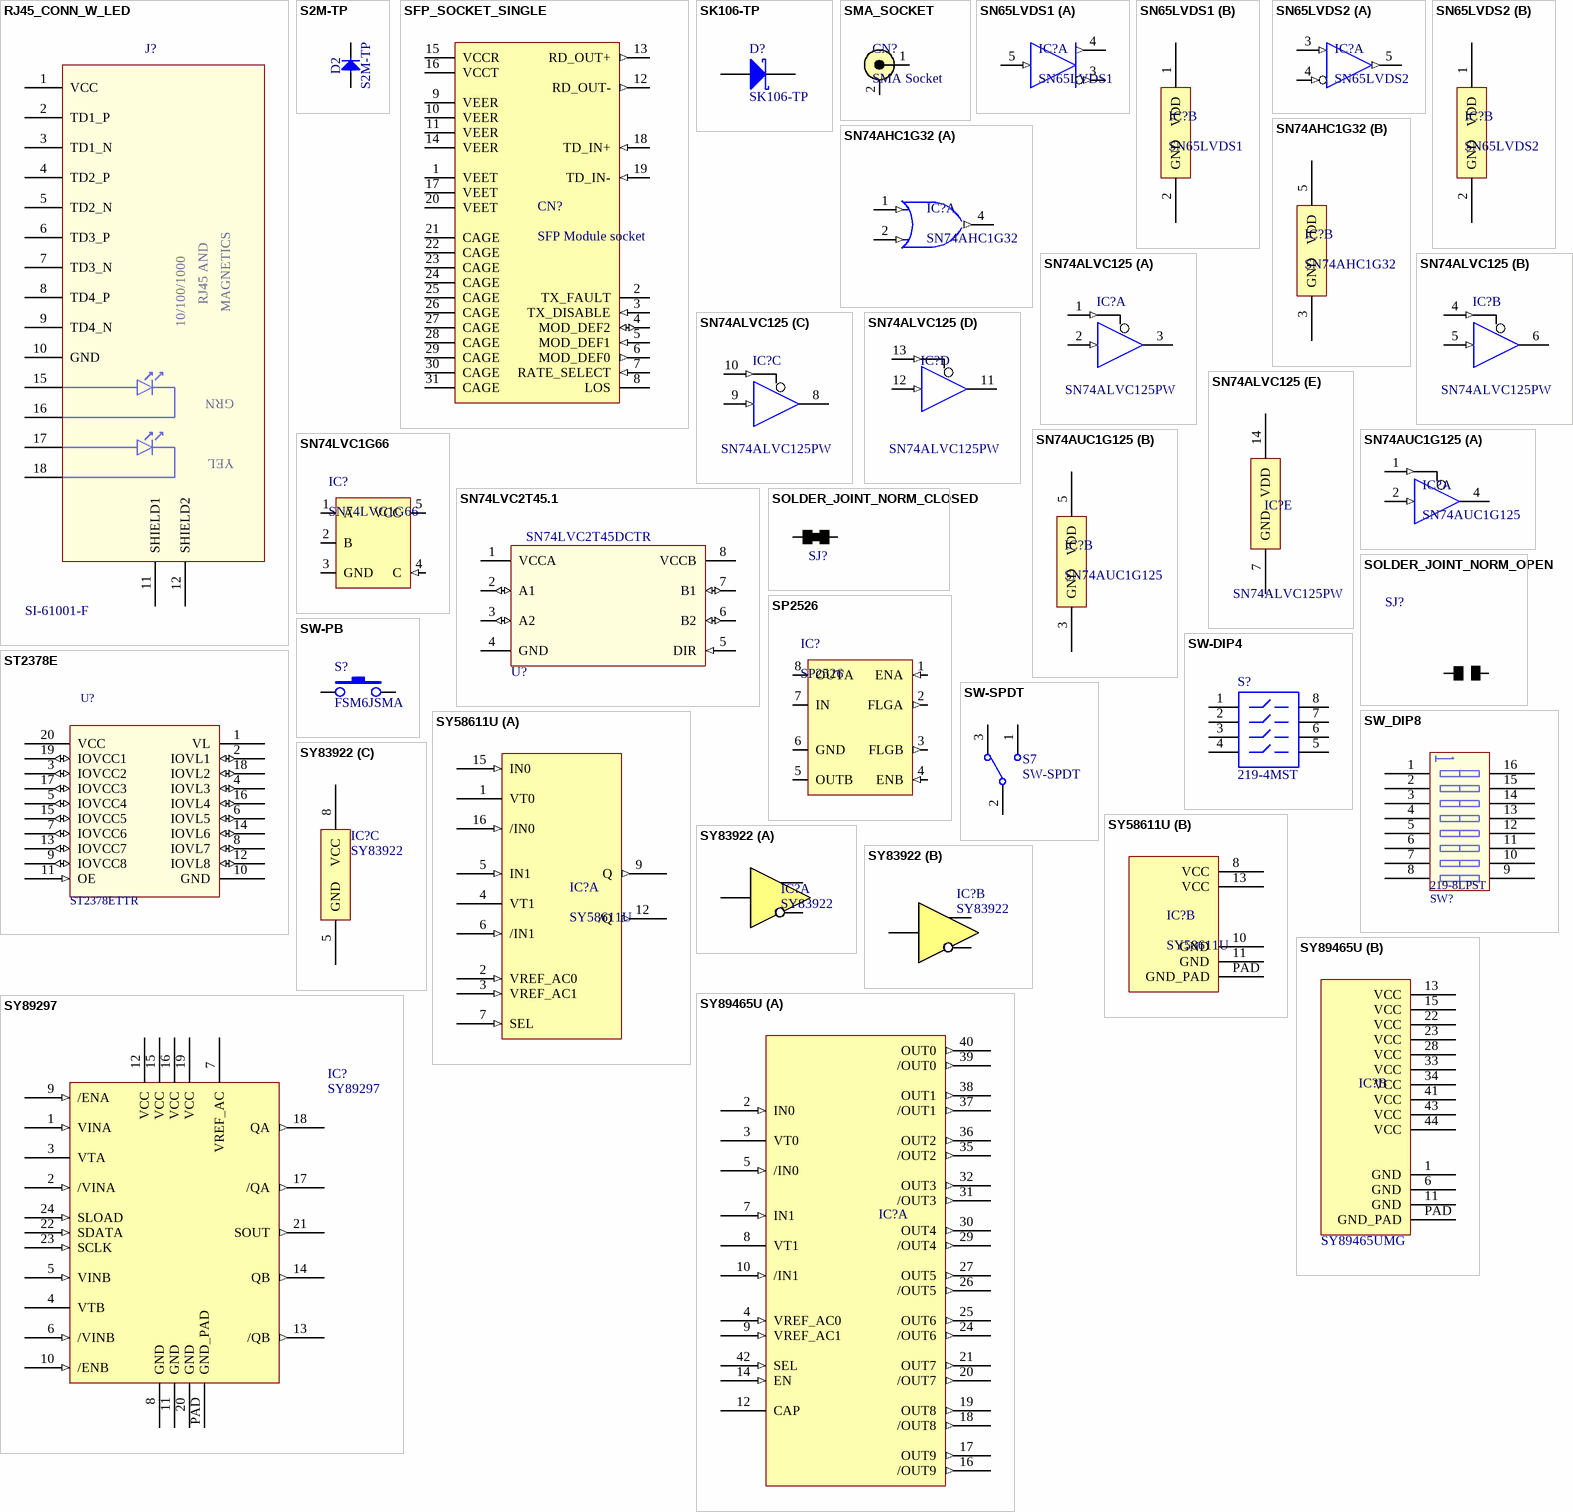
[diagram p21: symbols RJ45_CONN_W_LED to SY89465U]

## RJ45_CONN_W_LED
designator J?, comment SI-61001-F
Ethernet Connector MAGJACK W/LED 10/100/1000BT; Manufacturer1: Stewart Connector; PKG_TYPE: RJ45_WLED; Manufacturer1 PN: SI-61001-F; Distributor1: Digikey; Distributor1 PN: 380-1142-ND
footprint SI_61001_F (1 Port, Green/Green LEDs, RJ45 10/100/1000 Gigabit Ethernet, MagJack Connector Module)
pins: 1 VCC (power), 2 TD1_P, 3 TD1_N, 4 TD2_P, 5 TD2_N, 6 TD3_P, 7 TD3_N, 8 TD4_P, 9 TD4_N, 10 GND (power), 11 SHIELD1 (power), 12 SHIELD2 (power), 15 LED_GRN_A, 16 LED_GRN_C, 17 LED_YEL_A, 18 LED_YEL_C
text: RJ45 AND; MAGNETICS; 10/100/1000; GRN; YEL

## S2M-TP
designator D2
2 A Silicon Rectifier 50 to 1000 Volts; Manufacturer1: Micro Commercial Components; Author: CERN DEM JLC; Manufacturer1 PN: S2M-TP; Distributor1: Digikey; Distributor1 PN: S2M-TPMSCT-ND
footprint DO-214AA/SMB-MCC (DO-214AA/SMB Diode footprint for S2M MCC)
pins: 1 C, 2 A

## SFP_SOCKET_SINGLE
designator CN?, comment SFP Module socket
Socket for SFP module; Manufacturer1 PN: UE75A203000T; Manufacturer1: Amphenol; Distributor1 PN: 1256176; Distributor1: Farnell
footprint SFP_SINGLE_PORT
pins: 1 VEET (power), 2 TX_FAULT (oc), 3 TX_DISABLE (in), 4 MOD_DEF2 (io), 5 MOD_DEF1 (in), 6 MOD_DEF0 (out), 7 RATE_SELECT (in), 8 LOS (oc), 9 VEER (power), 10 VEER (power), 11 VEER (power), 12 RD_OUT- (out), 13 RD_OUT+ (out), 14 VEER (power), 15 VCCR (power), 16 VCCT (power), 17 VEET (power), 18 TD_IN+ (in), 19 TD_IN- (in), 20 VEET (power), 21 CAGE (power), 22 CAGE (power), 23 CAGE (power), 24 CAGE (power), 25 CAGE (power), 26 CAGE (power), 27 CAGE (power), 28 CAGE (power), 29 CAGE (power), 30 CAGE (power), 31 CAGE (power)

## SK106-TP
designator D?
Schottky Diode 10A 60V; Manufacturer1: Micro Commercial Components; Distributor1 PN: Digikey; Manufacturer1 PN: SK106-TP; Distributor1 PN: SK106-TPCT-ND
simulation model SKYDIODE (Diode)
signal-integrity model D Schottky
footprint DO-214AB/SMB-MCC (Diode footprint)
pins: 1 K, 2 A

## SMA_SOCKET
designator CN?, comment SMA Socket
Value: Tyco 5-1814400-1; Supplier: Farnell 1556649
pins: 1 HOT, 2 GND

## SN65LVDS1
designator IC?
TTL->LVDS buffer; RefId: 8452482; Value: SN65LVDS1DBVT; Supplier: Farnell
footprint SOT23-5AL (SOT23, 5-Leads, Body 2.9x1.6mm, Pitch 0.95mm, Lead Span 2.8mm, IPC High Density)
part A pins: 3 /Q (out), 4 Q (out), 5 A (in)
part B pins: 1 VDD, 2 GND

## SN65LVDS2
designator IC?
LVDS->TTL buffer; RefId: 1652269; Value: SN65LVDS2DBVR; Supplier: Farnell
footprint SOT23-5AL (SOT23, 5-Leads, Body 2.9x1.6mm, Pitch 0.95mm, Lead Span 2.8mm, IPC High Density)
part A pins: 3 A (in), 4 /A (in), 5 Q (out)
part B pins: 1 VDD, 2 GND

## SN74AHC1G32
designator IC?
TI single OR gate; RefId: SN74AHC1G32DBVT-ND; Value: SN74AHC1G32DBVT-ND; Supplier: Digikey
footprint SOT23-5AL (SOT23, 5-Leads, Body 2.9x1.6mm, Pitch 0.95mm, Lead Span 2.8mm, IPC High Density)
part A pins: 1 A (in), 2 B (in), 4 Y (out)
part B pins: 3 GND, 5 VDD

## SN74ALVC125
designator IC?  value SN74ALVC125PW  (hidden comment: SN74ALVC125)
Quad Buffer with 3-State Outputs with TTL Compatible Inputs; Manufacturer1: Texas Instruments; Manufacturer1 PN: SN74ALVC125PW; Distributor1: Digikey; Distributor1 PN: 296-26434-5-ND; Case: PW14
footprint PW014 (Shrink Small Outline; 14 Leads; Body Width 4.4 mm; Pitch 0.65 mm)
footprint 751A-03_L (SOIC, 14-Leads, Body 8.7x3.9mm, Pitch 1.27mm, IPC High Density)
footprint 751A-03_M (SOIC, 14-Leads, Body 8.7x3.9mm, Pitch 1.27mm, IPC Low Density)
signal-integrity model MC74ACT125D
part A pins: 1 ~{A} (in), 2 B (in), 3 Y (hiz)
part B pins: 4 ~{A} (in), 5 B (in), 6 Y (hiz)
part C pins: 8 Y (hiz), 9 B (in), 10 ~{A} (in)
part D pins: 11 Y (hiz), 12 B (in), 13 ~{A} (in)
part E pins: 7 GND, 14 VDD

## SN74AUC1G125
designator IC?
TI 2.5V single tri-state buffer; RefId: 1606269; Value: SN74AUC1G125DBVR; Supplier: Farnell
footprint SOT23-5AL (SOT23, 5-Leads, Body 2.9x1.6mm, Pitch 0.95mm, Lead Span 2.8mm, IPC High Density)
part A pins: 1 ~{OE} (in), 2 A (in), 4 Y (hiz)
part B pins: 3 GND, 5 VDD

## SN74LVC1G66
designator IC?
TI single analog switch; RefId: Far/1287587
footprint TI_DCK5
pins: 1 A, 2 B, 3 GND (power), 4 C (in), 5 VCC (power)

## SN74LVC2T45.1
designator U?, comment SN74LVC2T45DCTR
Dual-Bit Dual-Supply Bus Transceiver with configurable voltage translation and 3-state outputs; LEVEL: STD; PKG_TYPE: SSOP8; PART_SPEC: SN74LVC2T45; DEVICE: SN74LVC2T45DCTR; Value: SN74LVC2T45DCTR; Distributor1 PN: 296-16845-1-ND; Distributor1: Digikey
footprint SOP65P400X130-8N (SOP, 0.65mm, Pitch; 8 Pin, 2.80mm W X 2.95mm L X 1.30mm H Body, PC Medium Density)
pins: 1 VCCA (power), 2 A1 (io), 3 A2 (io), 4 GND (power), 5 DIR (in), 6 B2 (io), 7 B1 (io), 8 VCCB (power)

## SOLDER_JOINT_NORM_CLOSED
designator SJ?, comment Solder joint (closed)  (value not drawn)
footprint SJOINT_norm_short
pins: 1 P1, 2 P2

## SOLDER_JOINT_NORM_OPEN
designator SJ?, comment Solder joint (open)  (value not drawn)
footprint SJOINT_norm_open
pins: 1 P1, 2 P2

## SP2526
designator IC?
USB power switch; RefId: Far/9386610
footprint SOIC127P600-8AL (SOIC, 8-Leads, Body 4.9x3.9mm, Pitch 1.27mm, IPC High Density)
pins: 1 ENA (in), 2 FLGA (out), 3 FLGB (out), 4 ENB (in), 5 OUTB (power), 6 GND (power), 7 IN (power), 8 OUTA (power)

## ST2378E
designator U?, comment ST2378ETTR
8-bit dual supply 1.71V to 5.5V level translator with I/O; MANF: ST MICROELECTRONICS; DEVICE: IC; PKG_TYPE: TSSOP-20; MANF_P/N: ST2378ETTR; Distributor1_PN: 497-3730-1-ND; Distributor1: Digikey
footprint TSSOP-20
pins: 1 VL (power), 2 IOVL1 (io), 3 IOVCC2 (io), 4 IOVL3 (io), 5 IOVCC4 (io), 6 IOVL5 (io), 7 IOVCC6 (io), 8 IOVL7 (io), 9 IOVCC8 (io), 10 GND (power), 11 OE (in), 12 IOVL8 (io), 13 IOVCC7 (io), 14 IOVL6 (io), 15 IOVCC5 (io), 16 IOVL4 (io), 17 IOVCC3 (io), 18 IOVL2 (io), 19 IOVCC1 (io), 20 VCC (power)

## SW-DIP4
designator S?, comment 219-4MST
4 Positions DIP SWITCH; Manufacturer1: CTS Electrocomponents; Manufacturer1 PN: 219-4MST; Distributor1 PN: CT2194MST-ND; Distributor1: Digikey
footprint DIP-8
footprint NHDS-8
pins: 1, 2, 3, 4, 5, 6, 7, 8
2 alternate drawings of the same symbol

## SW-PB
designator S?, comment FSM6JSMA
Push button; Manufacturer: Tyco Electronics; Value: FSM6JSMA; Distributor1: Farnell; Distributor1 PN: 1555991
footprint TACT_SWITCH
footprint tact_b3s (B3S serie Omron Tact Switch SMD)
footprint tact_KSR213 (Cannon ITT miniature tact switch RS ref 228-4553)
footprint TACT-DQ62H73G160 (tact switch SMT (Maritex))
footprint SWITCH-FSM6JSMA (ALCOSWITCH - FSM6JSMA - SWITCH, TACTILE, SPNO, SMD)
pins: 1, 2
2 alternate drawings of the same symbol

## SW-SPDT
designator S7
SPDT Subminiature Toggle Switch, Vertical Actuation; Manufacturer1: Alps; Manufacturer1 PN: STSSS9121; Distributor1 PN: 1123875; Distributor1: Farnell
footprint Toggle Switch (SPDT Subminiature Toggle Switch, Vertical Actuation)
pins: 1, 2, 3

## SW_DIP8
designator SW?, comment 219-8LPST
8-bit SMD DIP Switch; Manufacturer1: CTS Electrocomponents; Distributor1_PN: CT2198LPST-ND; Distributor1: Digikey; Manufacturer1_PN: 219-8LPST
footprint NHDS-16 (SMD DIP Switch 2.54mm pitch)
pins: 1 A1, 2 A2, 3 A3, 4 A4, 5 A5, 6 A6, 7 A7, 8 A8, 9 B8, 10 B7, 11 B6, 12 B5, 13 B4, 14 B3, 15 B2, 16 B1

## SY58611U
designator IC?
Micrel 2:1 LVDS MUX
part A pins: 1 VT0, 2 VREF_AC0 (in), 3 VREF_AC1 (in), 4 VT1, 5 IN1 (in), 6 /IN1 (in), 7 SEL (in), 9 Q (out), 12 /Q (out), 15 IN0 (in), 16 /IN0 (in)
part B pins: 8 VCC (power), 10 GND (power), 11 GND (power), 13 VCC (power), PAD GND_PAD (power)

## SY83922
designator IC?
Dual LVTTL/LVCMOS to LVPECL buffer
part A pins: 1 Q0+, 2 Q0-, 7 IN0
part B pins: 3 Q1+, 4 Q1-, 6 IN1
part C pins: 5 GND (power), 8 VCC (power)

## SY89297
designator IC?
Precision delay line
pins: 1 VINA (in), 2 /VINA (in), 3 VTA, 4 VTB, 5 VINB (in), 6 /VINB (in), 7 VREF_AC (power), 8 GND (power), 9 /ENA (in), 10 /ENB (in), 11 GND (power), 12 VCC (power), 13 /QB (out), 14 QB (out), 15 VCC (power), 16 VCC (power), 17 /QA (out), 18 QA (out), 19 VCC (power), 20 GND (power), 21 SOUT (out), 22 SDATA (in), 23 SCLK (in), 24 SLOAD (in), PAD GND_PAD (power)

## SY89465U
designator IC?  value SY89465UMG  (hidden comment: SY89465U)
Micrel 2:10 any->LVDS clock fanout; RefId: 576-1476-1-ND; Supplier: Digikey
footprint MLF44
part A pins: 2 IN0 (in), 3 VT0, 4 VREF_AC0 (in), 5 /IN0 (in), 7 IN1 (in), 8 VT1, 9 VREF_AC1 (in), 10 /IN1 (in), 12 CAP, 14 EN (in), 16 /OUT9 (out), 17 OUT9 (out), 18 /OUT8 (out), 19 OUT8 (out), 20 /OUT7 (out), 21 OUT7 (out), 24 /OUT6 (out), 25 OUT6 (out), 26 /OUT5 (out), 27 OUT5 (out), 29 /OUT4 (out), 30 OUT4 (out), 31 /OUT3 (out), 32 OUT3 (out), 35 /OUT2 (out), 36 OUT2 (out), 37 /OUT1 (out), 38 OUT1 (out), 39 /OUT0 (out), 40 OUT0 (out), 42 SEL (in)
part B pins: 1 GND (power), 6 GND (power), 11 GND (power), 13 VCC (power), 15 VCC (power), 22 VCC (power), 23 VCC (power), 28 VCC (power), 33 VCC (power), 34 VCC (power), 41 VCC (power), 43 VCC (power), 44 VCC (power), PAD GND_PAD (power)

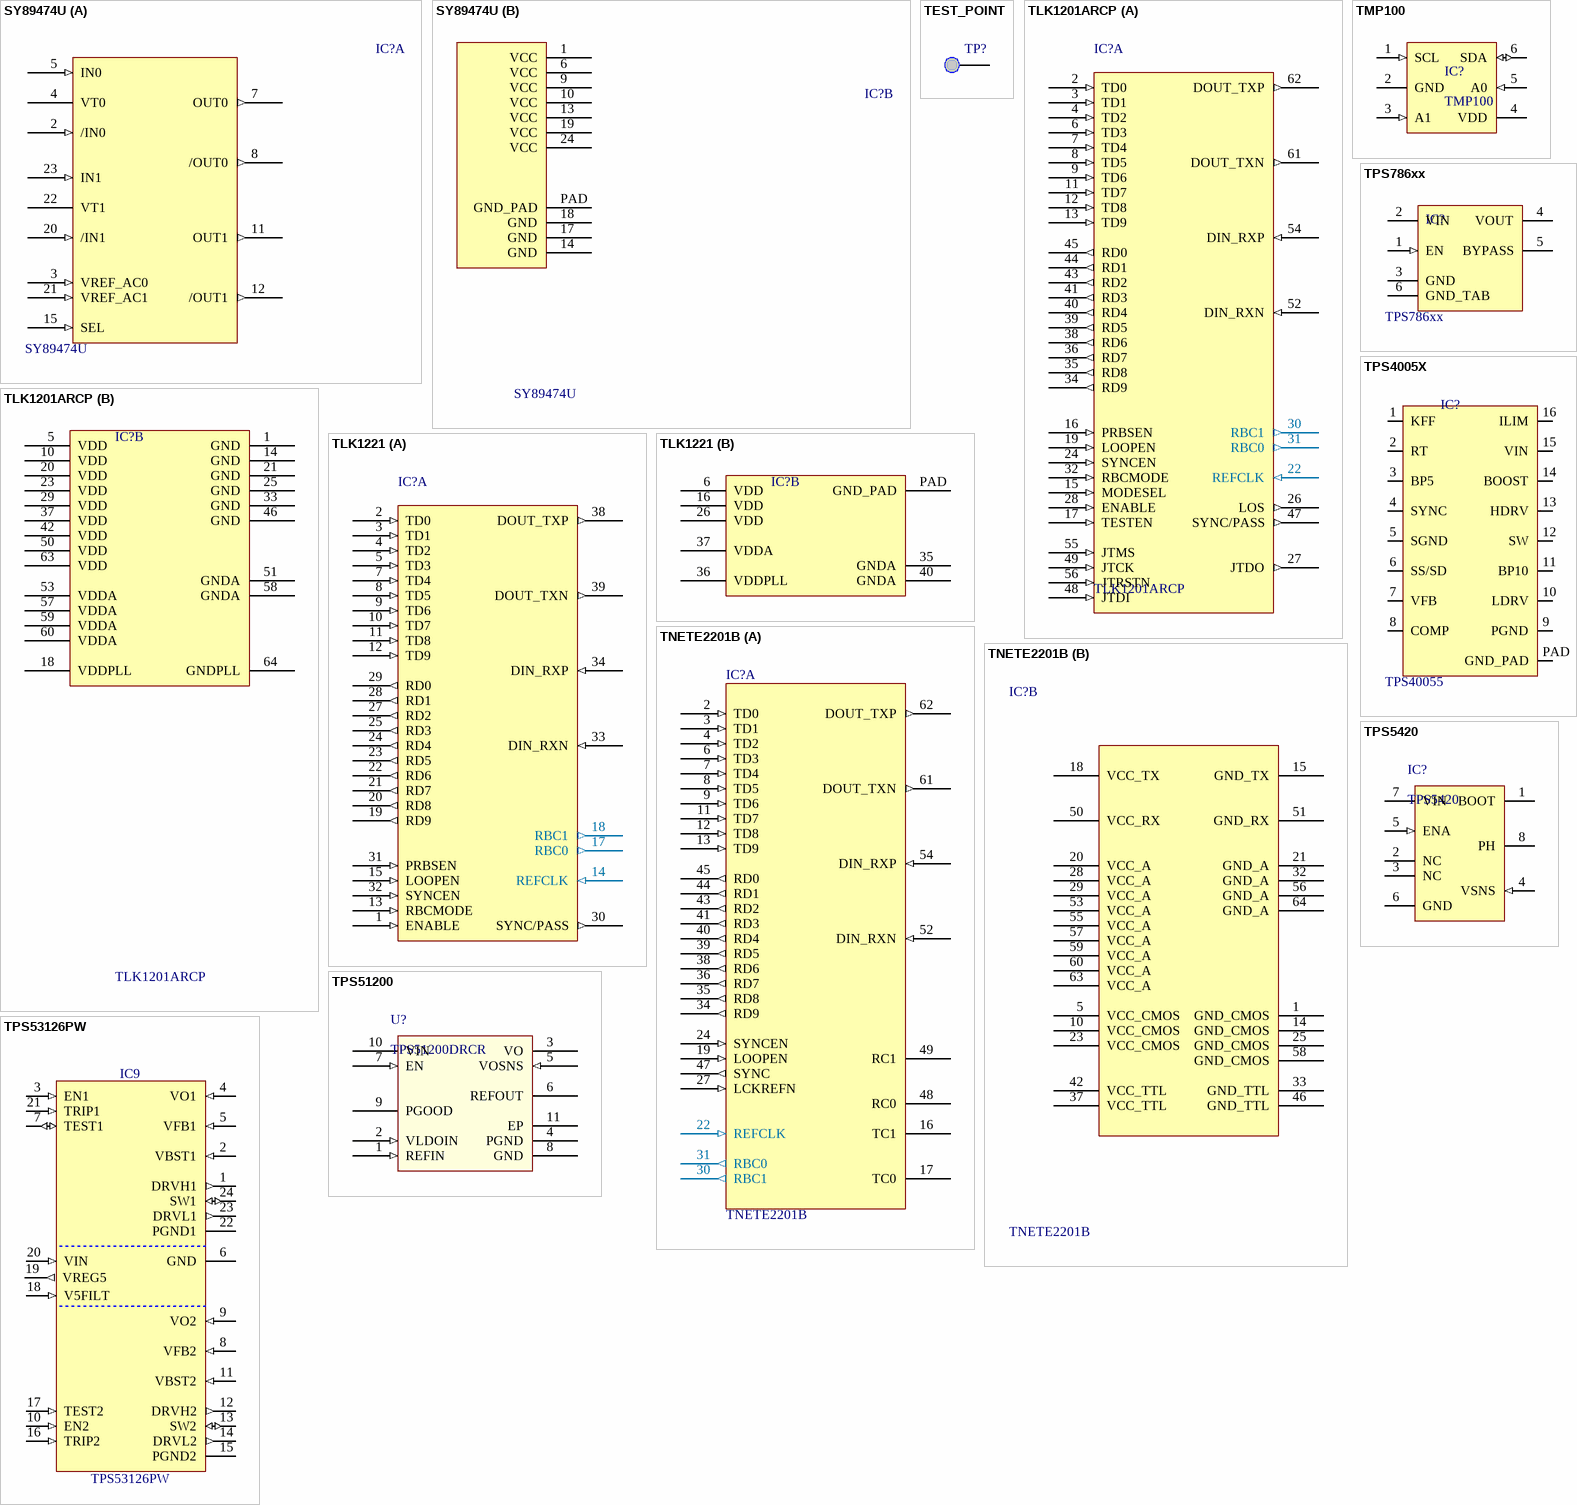
[diagram p22: symbols SY89474U to TPS53126PW]

## SY89474U
designator IC?
2:1 differential clock mux/2-output fanout; RefId: 576-2562-ND; Supplier: Digikey; Value: SY89474U
footprint MLF24
part A pins: 2 /IN0 (in), 3 VREF_AC0 (in), 4 VT0, 5 IN0 (in), 7 OUT0 (out), 8 /OUT0 (out), 11 OUT1 (out), 12 /OUT1 (out), 15 SEL (in), 20 /IN1 (in), 21 VREF_AC1 (in), 22 VT1, 23 IN1 (in)
part B pins: 1 VCC (power), 6 VCC (power), 9 VCC (power), 10 VCC (power), 13 VCC (power), 14 GND (power), 17 GND (power), 18 GND (power), 19 VCC (power), 24 VCC (power), PAD GND_PAD (power)

## TEST_POINT
designator TP?, comment Test Point  (value not drawn)
SMD 1mm Test Point
footprint TEST_PAD_1mm (SMD 1mm Test Pad)
pins: 1 TP

## TLK1201ARCP
designator IC?
Texas Instruments Gigabit Ethernet PHY with deterministic clocking and LVPECL output interface
part A pins: 2 TD0 (in), 3 TD1 (in), 4 TD2 (in), 6 TD3 (in), 7 TD4 (in), 8 TD5 (in), 9 TD6 (in), 11 TD7 (in), 12 TD8 (in), 13 TD9 (in), 15 MODESEL (in), 16 PRBSEN (in), 17 TESTEN (in), 19 LOOPEN (in), 22 REFCLK (in), 24 SYNCEN (in), 26 LOS (out), 27 JTDO (out), 28 ENABLE (in), 30 RBC1 (out), 31 RBC0 (out), 32 RBCMODE (in), 34 RD9 (out), 35 RD8 (out), 36 RD7 (out), 38 RD6 (out), 39 RD5 (out), 40 RD4 (out), 41 RD3 (out), 43 RD2 (out), 44 RD1 (out), 45 RD0 (out), 47 SYNC/PASS (out), 48 JTDI (in), 49 JTCK (in), 52 DIN_RXN (in), 54 DIN_RXP (in), 55 JTMS (in), 56 JTRSTN (in), 61 DOUT_TXN (out), 62 DOUT_TXP (out)
part B pins: 1 GND (power), 5 VDD (power), 10 VDD (power), 14 GND (power), 18 VDDPLL (power), 20 VDD (power), 21 GND (power), 23 VDD (power), 25 GND (power), 29 VDD (power), 33 GND (power), 37 VDD (power), 42 VDD (power), 46 GND (power), 50 VDD (power), 51 GNDA (power), 53 VDDA (power), 57 VDDA (power), 58 GNDA (power), 59 VDDA (power), 60 VDDA (power), 63 VDD (power), 64 GNDPLL (power)

## TLK1221
designator IC?  (value not drawn)
Texas Instruments Gigabit Ethernet PHY with deterministic clocking and LVPECL output interface; RefId: 1576976; Value: TLK1221RHAT; Supplier: Farnell
footprint QFN40_powerpad
part A pins: 1 ENABLE (in), 2 TD0 (in), 3 TD1 (in), 4 TD2 (in), 5 TD3 (in), 7 TD4 (in), 8 TD5 (in), 9 TD6 (in), 10 TD7 (in), 11 TD8 (in), 12 TD9 (in), 13 RBCMODE (in), 14 REFCLK (in), 15 LOOPEN (in), 17 RBC0 (out), 18 RBC1 (out), 19 RD9 (out), 20 RD8 (out), 21 RD7 (out), 22 RD6 (out), 23 RD5 (out), 24 RD4 (out), 25 RD3 (out), 27 RD2 (out), 28 RD1 (out), 29 RD0 (out), 30 SYNC/PASS (out), 31 PRBSEN (in), 32 SYNCEN (in), 33 DIN_RXN (in), 34 DIN_RXP (in), 38 DOUT_TXP (out), 39 DOUT_TXN (out)
part B pins: 6 VDD (power), 16 VDD (power), 26 VDD (power), 35 GNDA (power), 36 VDDPLL (power), 37 VDDA (power), 40 GNDA (power), PAD GND_PAD (power)

## TMP100
designator IC?
I2C temp. sensor; RefId: 296-12750-1-ND; Value: TMP101NA/250; Supplier: Digikey
footprint SOT23A-6L (SOT23, 6-Leads, Body 2.9x1.7mm, Pitch 0.95mm, Lead Span 2.8mm, IPC High Density)
pins: 1 SCL (in), 2 GND (power), 3 A1 (in), 4 VDD (power), 5 A0 (in), 6 SDA (io)

## TNETE2201B
designator IC?
Texas Instruments Gigabit Ethernet PHY with deterministic clocking and LVPECL output interface
part A pins: 2 TD0 (in), 3 TD1 (in), 4 TD2 (in), 6 TD3 (in), 7 TD4 (in), 8 TD5 (in), 9 TD6 (in), 11 TD7 (in), 12 TD8 (in), 13 TD9 (in), 16 TC1, 17 TC0, 19 LOOPEN (in), 22 REFCLK (in), 24 SYNCEN (in), 27 LCKREFN (in), 30 RBC1 (out), 31 RBC0 (out), 34 RD9 (out), 35 RD8 (out), 36 RD7 (out), 38 RD6 (out), 39 RD5 (out), 40 RD4 (out), 41 RD3 (out), 43 RD2 (out), 44 RD1 (out), 45 RD0 (out), 47 SYNC (out), 48 RC0, 49 RC1, 52 DIN_RXN (in), 54 DIN_RXP (in), 61 DOUT_TXN (out), 62 DOUT_TXP (out)
part B pins: 1 GND_CMOS (power), 5 VCC_CMOS (power), 10 VCC_CMOS (power), 14 GND_CMOS (power), 15 GND_TX (power), 18 VCC_TX (power), 20 VCC_A (power), 21 GND_A (power), 23 VCC_CMOS (power), 25 GND_CMOS (power), 28 VCC_A (power), 29 VCC_A (power), 32 GND_A (power), 33 GND_TTL (power), 37 VCC_TTL (power), 42 VCC_TTL (power), 46 GND_TTL (power), 50 VCC_RX (power), 51 GND_RX (power), 53 VCC_A (power), 55 VCC_A (power), 56 GND_A (power), 57 VCC_A (power), 58 GND_CMOS (power), 59 VCC_A (power), 60 VCC_A (power), 63 VCC_A (power), 64 GND_A (power)